# Altium schematic symbol library 710-DC2044B_REV01_PCA_SCHEMATIC_Library.SchLib: 74 symbols
Pins are listed as number, name and electrical type; pins without a type are passive.

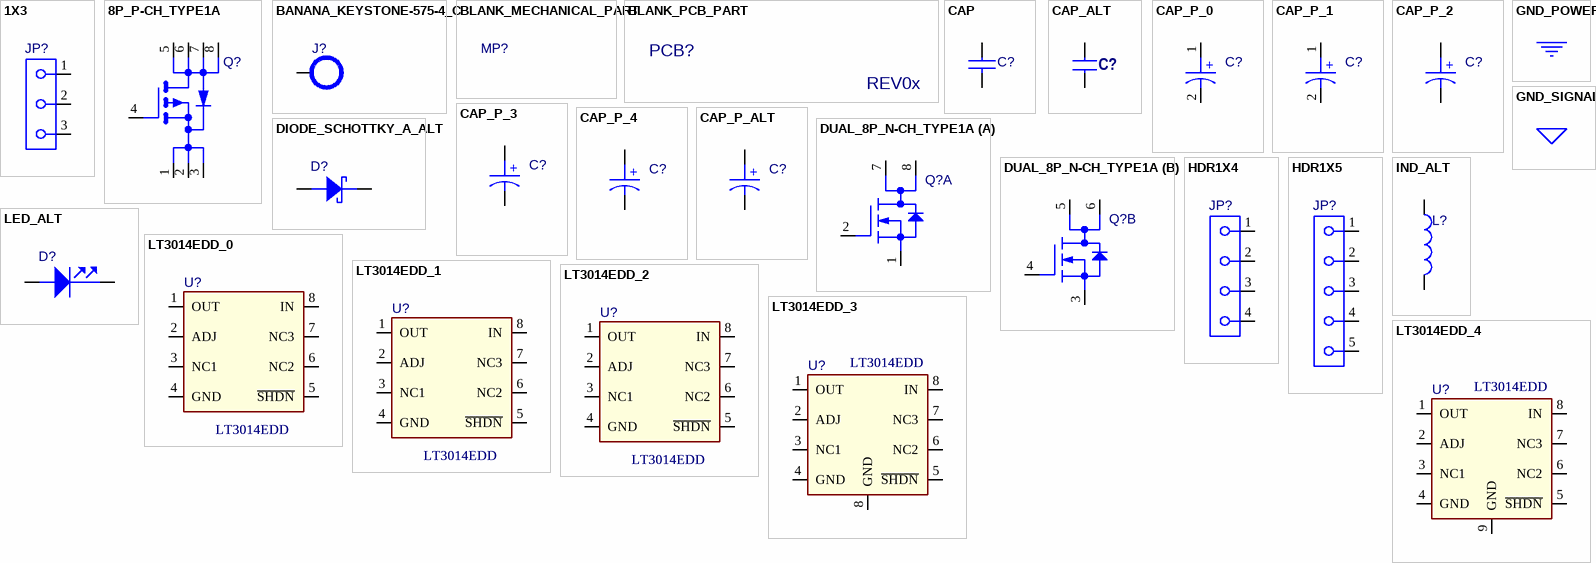
[diagram p0: symbols 1X3 to LT3014EDD_4]

## 1X3
designator JP?  (value not drawn)
pins: 1, 2, 3

## 8P_P-CH_TYPE1A
designator Q?
pins: 1 S_1, 2 S_2, 3 S_3, 4 G, 5 D_5, 6 D_6, 7 D_7, 8 D_8

## BANANA_KEYSTONE-575-4_C
designator J?
pins: 1

## BLANK_MECHANICAL_PART
designator MP?, comment TBD  (value not drawn)
PART DESCRIPTION HERE; Value: TBD

## BLANK_PCB_PART
designator PCB?, comment BOM Notes: REV0x  (hidden comment: TBD)
PCB,DCXXXX; Value: TBD

## CAP
designator C?
pins: 1, 2

## CAP_ALT
designator C?
EDMVersionID: 3900555435
pins: 1, 2

## CAP_P_0
designator C?
pins: 1, 2
text: +

## CAP_P_1
designator C?
pins: 1, 2
text: +

## CAP_P_2
designator C?
pins: 1, 2
text: +

## CAP_P_3
designator C?
pins: 1, 2
text: +

## CAP_P_4
designator C?
pins: 1, 2
text: +

## CAP_P_ALT
designator C?
pins: 1, 2
text: +

## DIODE_SCHOTTKY_A_ALT
designator D?
pins: 1 C, 2 A

## DUAL_8P_N-CH_TYPE1A
designator Q?
EDMVersionID: 1895815957
part A pins: 1 S1, 2 G1, 7 D1_7, 8 D1_8
part B pins: 3 S2, 4 G2, 5 D2_5, 6 D2_6

## GND_POWER
designator *  (value not drawn)  (graphical)
pins: GND (power) hidden to GND

## GND_SIGNAL
designator *  (value not drawn)  (graphical)
pins: GND (power) hidden to GND

## HDR1X4
designator JP?  (value not drawn)
pins: 1, 2, 3, 4

## HDR1X5
designator JP?  (value not drawn)
pins: 1, 2, 3, 4, 5

## IND_ALT
designator L?
pins: 1, 2

## LED_ALT
designator D?
pins: 1 CATHODE, 2 ANODE

## LT3014EDD_0
designator U?, comment LT3014EDD
EDMVersionID: 1471248459; Value: LT3014EDD
footprint LTC-S5-5-1635
pins: 1 OUT, 2 ADJ, 3 NC1, 4 GND, 5 ~{SHDN}, 6 NC2, 7 NC3, 8 IN

## LT3014EDD_1
designator U?, comment LT3014EDD
EDMVersionID: 1471248459; Value: LT3014EDD
footprint LTC-S5-5-1635
pins: 1 OUT, 2 ADJ, 3 NC1, 4 GND, 5 ~{S}~{HDN}, 6 NC2, 7 NC3, 8 IN

## LT3014EDD_2
designator U?, comment LT3014EDD
EDMVersionID: 1471248459; Value: LT3014EDD
footprint LTC-S5-5-1635
pins: 1 OUT, 2 ADJ, 3 NC1, 4 GND, 5 ~{SHDN}, 6 NC2, 7 NC3, 8 IN

## LT3014EDD_3
designator U?, comment LT3014EDD
EDMVersionID: 987387422; Value: LT3014EDD
footprint LTC-S5-5-1635
pins: 1 OUT, 2 ADJ, 3 NC1, 4 GND, 5 ~{SHDN}, 6 NC2, 7 NC3, 8 IN, 8 GND

## LT3014EDD_4
designator U?, comment LT3014EDD
EDMVersionID: 987387422; Value: LT3014EDD
footprint LTC-S5-5-1635
pins: 1 OUT, 2 ADJ, 3 NC1, 4 GND, 5 ~{SHDN}, 6 NC2, 7 NC3, 8 IN, 9 GND

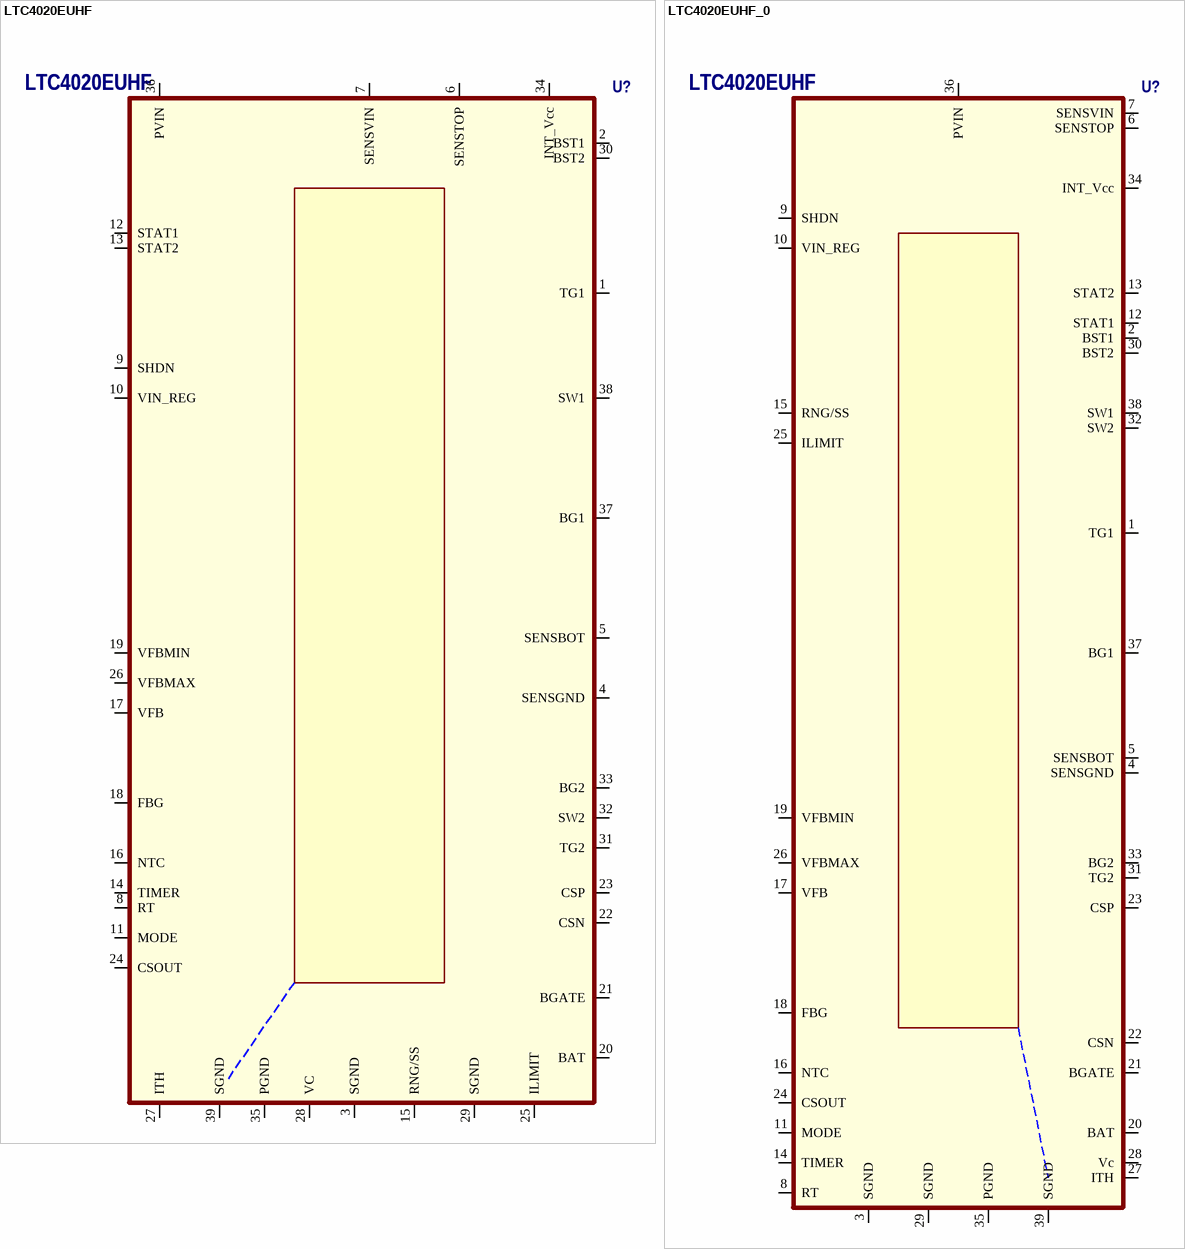
[diagram p1: symbols LTC4020EUHF to LTC4020EUHF_0]

## LTC4020EUHF
designator U?
EDMVersionID: 819358601; Value: LTC4020EUHF
footprint LTC-QFN-38-1701
pins: 1 TG1, 2 BST1, 3 SGND, 4 SENSGND, 5 SENSBOT, 6 SENSTOP, 7 SENSVIN, 8 RT, 9 SHDN, 10 VIN_REG, 11 MODE, 12 STAT1, 13 STAT2, 14 TIMER, 15 RNG/SS, 16 NTC, 17 VFB, 18 FBG, 19 VFBMIN, 20 BAT, 21 BGATE, 22 CSN, 23 CSP, 24 CSOUT, 25 ILIMIT, 26 VFBMAX, 27 ITH, 28 VC, 29 SGND, 30 BST2, 31 TG2, 32 SW2, 33 BG2, 34 INT_Vcc, 35 PGND, 36 PVIN, 37 BG1, 38 SW1, 39 SGND

## LTC4020EUHF_0
designator U?, comment LTC4020EUHF
EDMVersionID: 371176505; Value: LTC4020EUHF
footprint LTC-QFN-38-1701
pins: 1 TG1, 2 BST1, 3 SGND, 4 SENSGND, 5 SENSBOT, 6 SENSTOP, 7 SENSVIN, 8 RT, 9 SHDN, 10 VIN_REG, 11 MODE, 12 STAT1, 13 STAT2, 14 TIMER, 15 RNG/SS, 16 NTC, 17 VFB, 18 FBG, 19 VFBMIN, 20 BAT, 21 BGATE, 22 CSN, 23 CSP, 24 CSOUT, 25 ILIMIT, 26 VFBMAX, 27 ITH, 28 Vc, 29 SGND, 30 BST2, 31 TG2, 32 SW2, 33 BG2, 34 INT_Vcc, 35 PGND, 36 PVIN, 37 BG1, 38 SW1, 39 SGND

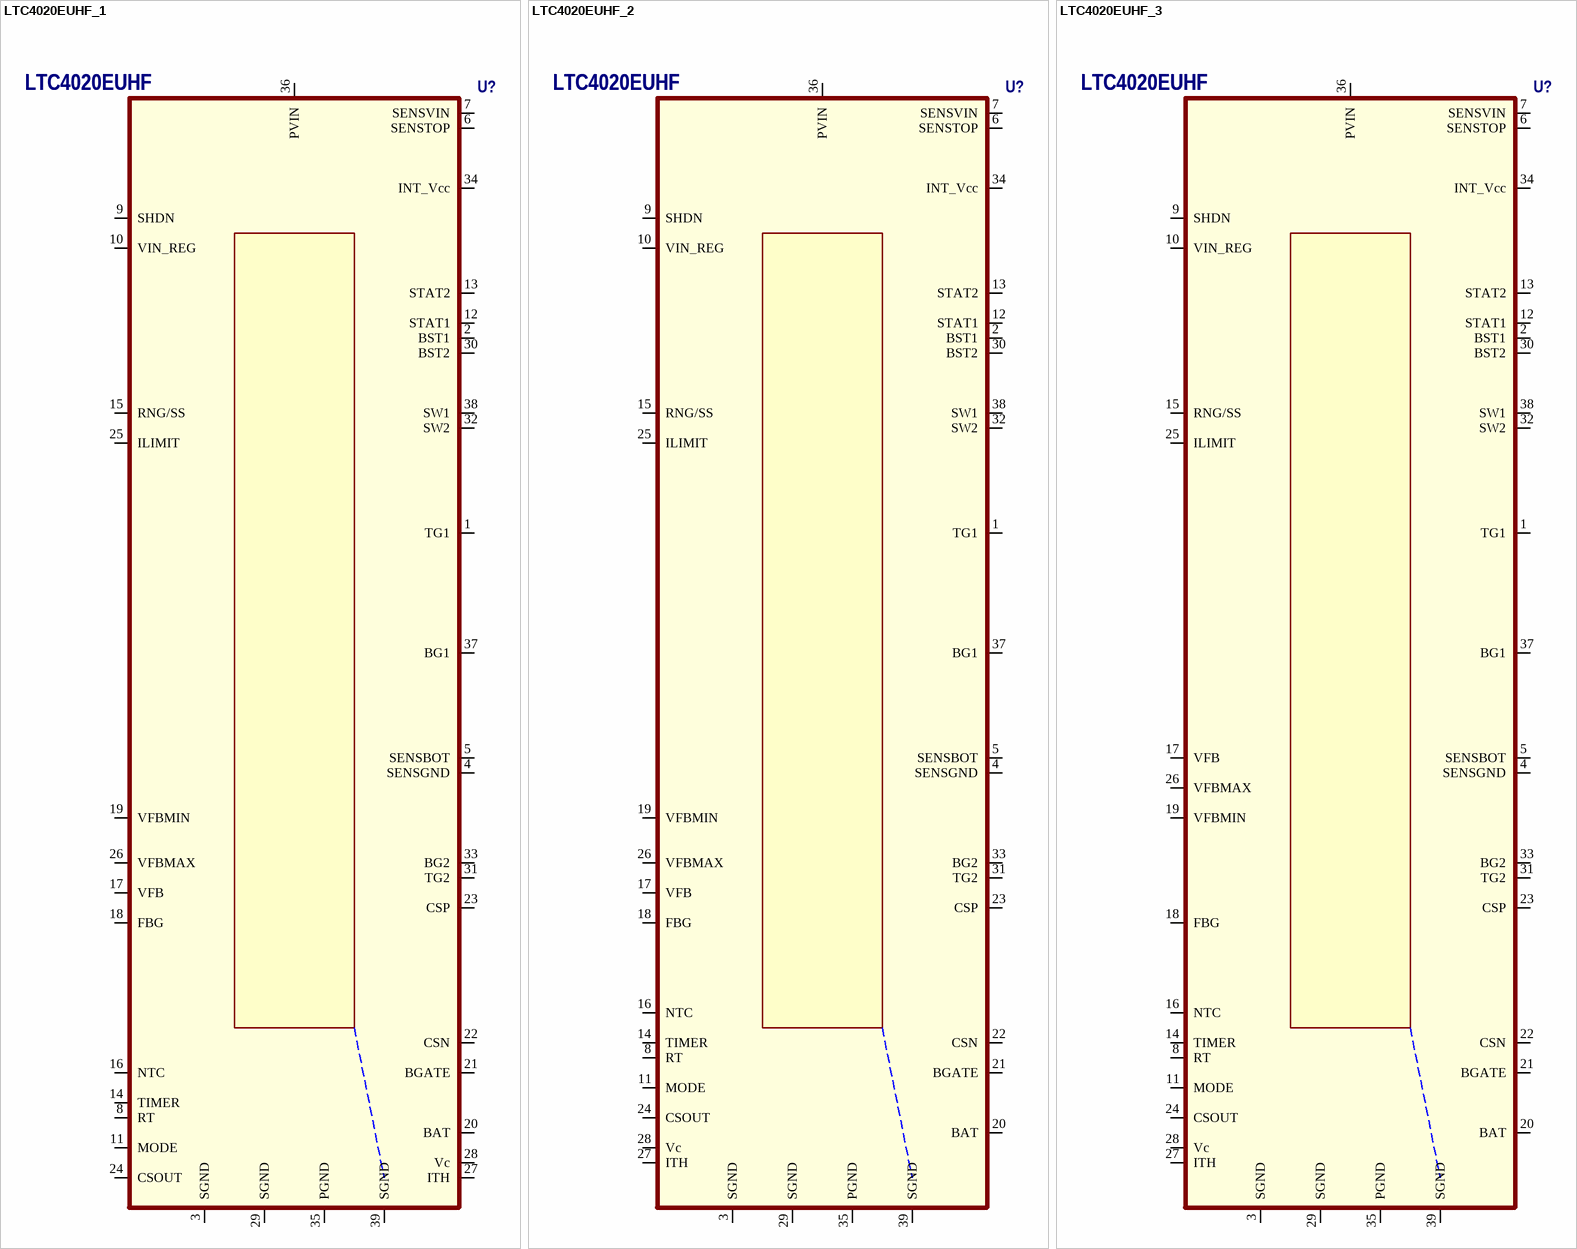
[diagram p2: symbols LTC4020EUHF_1 to LTC4020EUHF_3]

## LTC4020EUHF_1
designator U?, comment LTC4020EUHF
EDMVersionID: 371176505; Value: LTC4020EUHF
footprint LTC-QFN-38-1701
pins: 1 TG1, 2 BST1, 3 SGND, 4 SENSGND, 5 SENSBOT, 6 SENSTOP, 7 SENSVIN, 8 RT, 9 SHDN, 10 VIN_REG, 11 MODE, 12 STAT1, 13 STAT2, 14 TIMER, 15 RNG/SS, 16 NTC, 17 VFB, 18 FBG, 19 VFBMIN, 20 BAT, 21 BGATE, 22 CSN, 23 CSP, 24 CSOUT, 25 ILIMIT, 26 VFBMAX, 27 ITH, 28 Vc, 29 SGND, 30 BST2, 31 TG2, 32 SW2, 33 BG2, 34 INT_Vcc, 35 PGND, 36 PVIN, 37 BG1, 38 SW1, 39 SGND

## LTC4020EUHF_2
designator U?, comment LTC4020EUHF
EDMVersionID: 371176505; Value: LTC4020EUHF
footprint LTC-QFN-38-1701
pins: 1 TG1, 2 BST1, 3 SGND, 4 SENSGND, 5 SENSBOT, 6 SENSTOP, 7 SENSVIN, 8 RT, 9 SHDN, 10 VIN_REG, 11 MODE, 12 STAT1, 13 STAT2, 14 TIMER, 15 RNG/SS, 16 NTC, 17 VFB, 18 FBG, 19 VFBMIN, 20 BAT, 21 BGATE, 22 CSN, 23 CSP, 24 CSOUT, 25 ILIMIT, 26 VFBMAX, 27 ITH, 28 Vc, 29 SGND, 30 BST2, 31 TG2, 32 SW2, 33 BG2, 34 INT_Vcc, 35 PGND, 36 PVIN, 37 BG1, 38 SW1, 39 SGND

## LTC4020EUHF_3
designator U?, comment LTC4020EUHF
EDMVersionID: 371176505; Value: LTC4020EUHF
footprint LTC-QFN-38-1701
pins: 1 TG1, 2 BST1, 3 SGND, 4 SENSGND, 5 SENSBOT, 6 SENSTOP, 7 SENSVIN, 8 RT, 9 SHDN, 10 VIN_REG, 11 MODE, 12 STAT1, 13 STAT2, 14 TIMER, 15 RNG/SS, 16 NTC, 17 VFB, 18 FBG, 19 VFBMIN, 20 BAT, 21 BGATE, 22 CSN, 23 CSP, 24 CSOUT, 25 ILIMIT, 26 VFBMAX, 27 ITH, 28 Vc, 29 SGND, 30 BST2, 31 TG2, 32 SW2, 33 BG2, 34 INT_Vcc, 35 PGND, 36 PVIN, 37 BG1, 38 SW1, 39 SGND

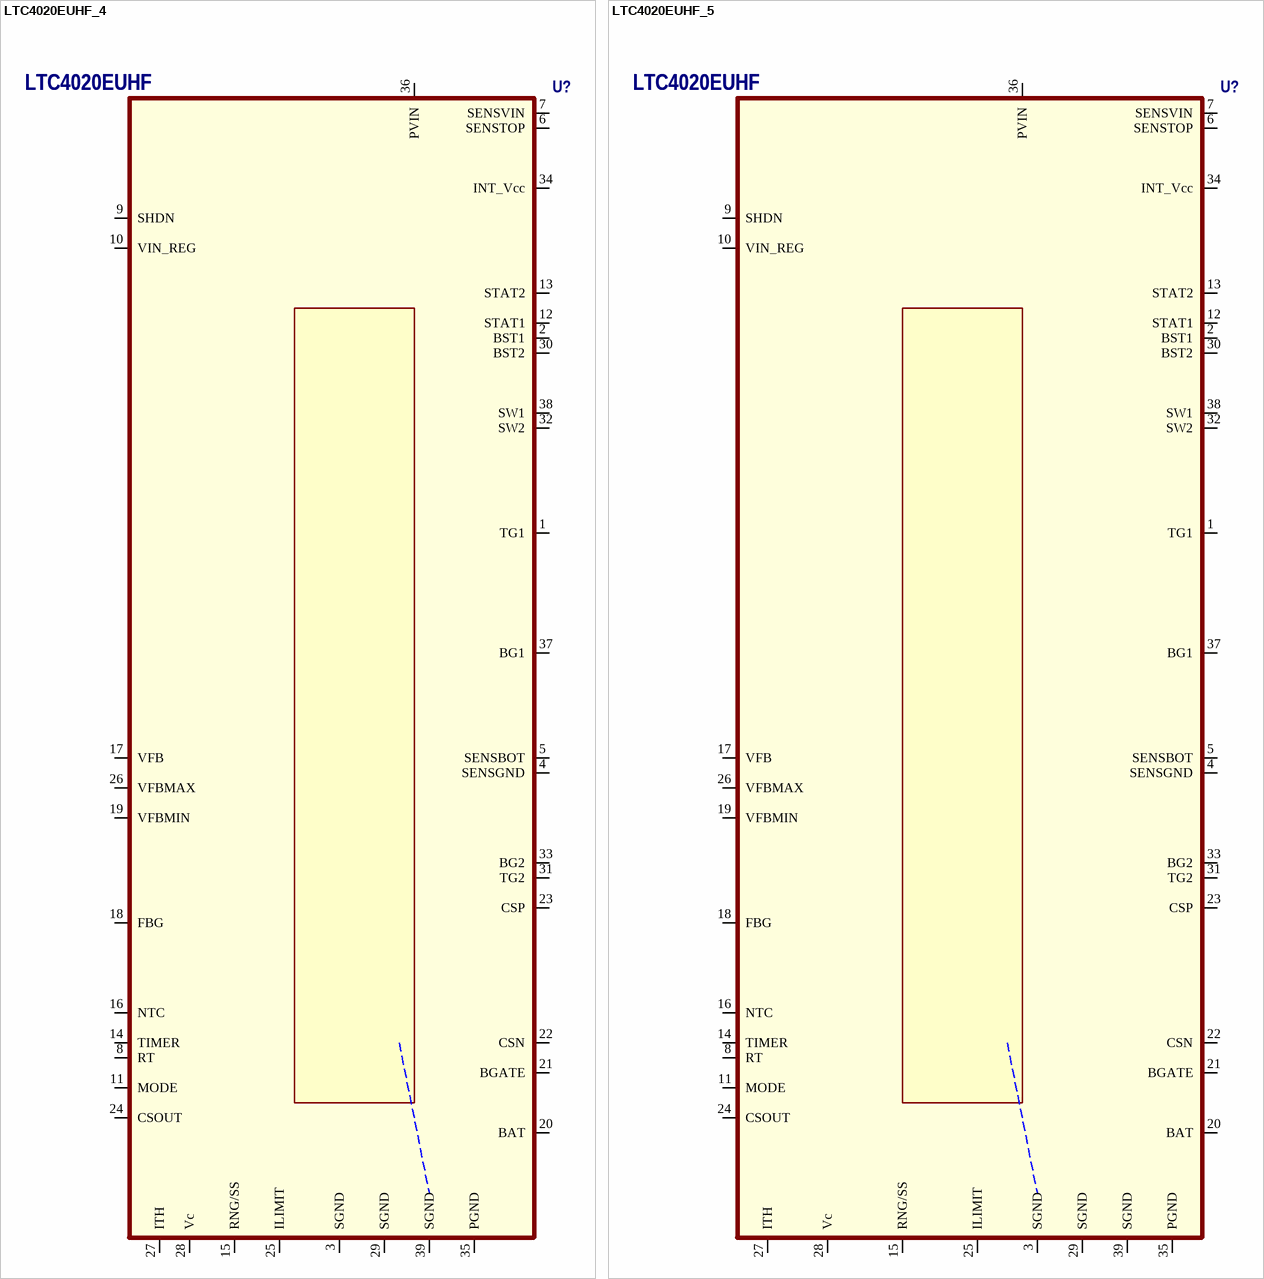
[diagram p3: symbols LTC4020EUHF_4 to LTC4020EUHF_5]

## LTC4020EUHF_4
designator U?, comment LTC4020EUHF
EDMVersionID: 371176505; Value: LTC4020EUHF
footprint LTC-QFN-38-1701
pins: 1 TG1, 2 BST1, 3 SGND, 4 SENSGND, 5 SENSBOT, 6 SENSTOP, 7 SENSVIN, 8 RT, 9 SHDN, 10 VIN_REG, 11 MODE, 12 STAT1, 13 STAT2, 14 TIMER, 15 RNG/SS, 16 NTC, 17 VFB, 18 FBG, 19 VFBMIN, 20 BAT, 21 BGATE, 22 CSN, 23 CSP, 24 CSOUT, 25 ILIMIT, 26 VFBMAX, 27 ITH, 28 Vc, 29 SGND, 30 BST2, 31 TG2, 32 SW2, 33 BG2, 34 INT_Vcc, 35 PGND, 36 PVIN, 37 BG1, 38 SW1, 39 SGND

## LTC4020EUHF_5
designator U?, comment LTC4020EUHF
EDMVersionID: 371176505; Value: LTC4020EUHF
footprint LTC-QFN-38-1701
pins: 1 TG1, 2 BST1, 3 SGND, 4 SENSGND, 5 SENSBOT, 6 SENSTOP, 7 SENSVIN, 8 RT, 9 SHDN, 10 VIN_REG, 11 MODE, 12 STAT1, 13 STAT2, 14 TIMER, 15 RNG/SS, 16 NTC, 17 VFB, 18 FBG, 19 VFBMIN, 20 BAT, 21 BGATE, 22 CSN, 23 CSP, 24 CSOUT, 25 ILIMIT, 26 VFBMAX, 27 ITH, 28 Vc, 29 SGND, 30 BST2, 31 TG2, 32 SW2, 33 BG2, 34 INT_Vcc, 35 PGND, 36 PVIN, 37 BG1, 38 SW1, 39 SGND

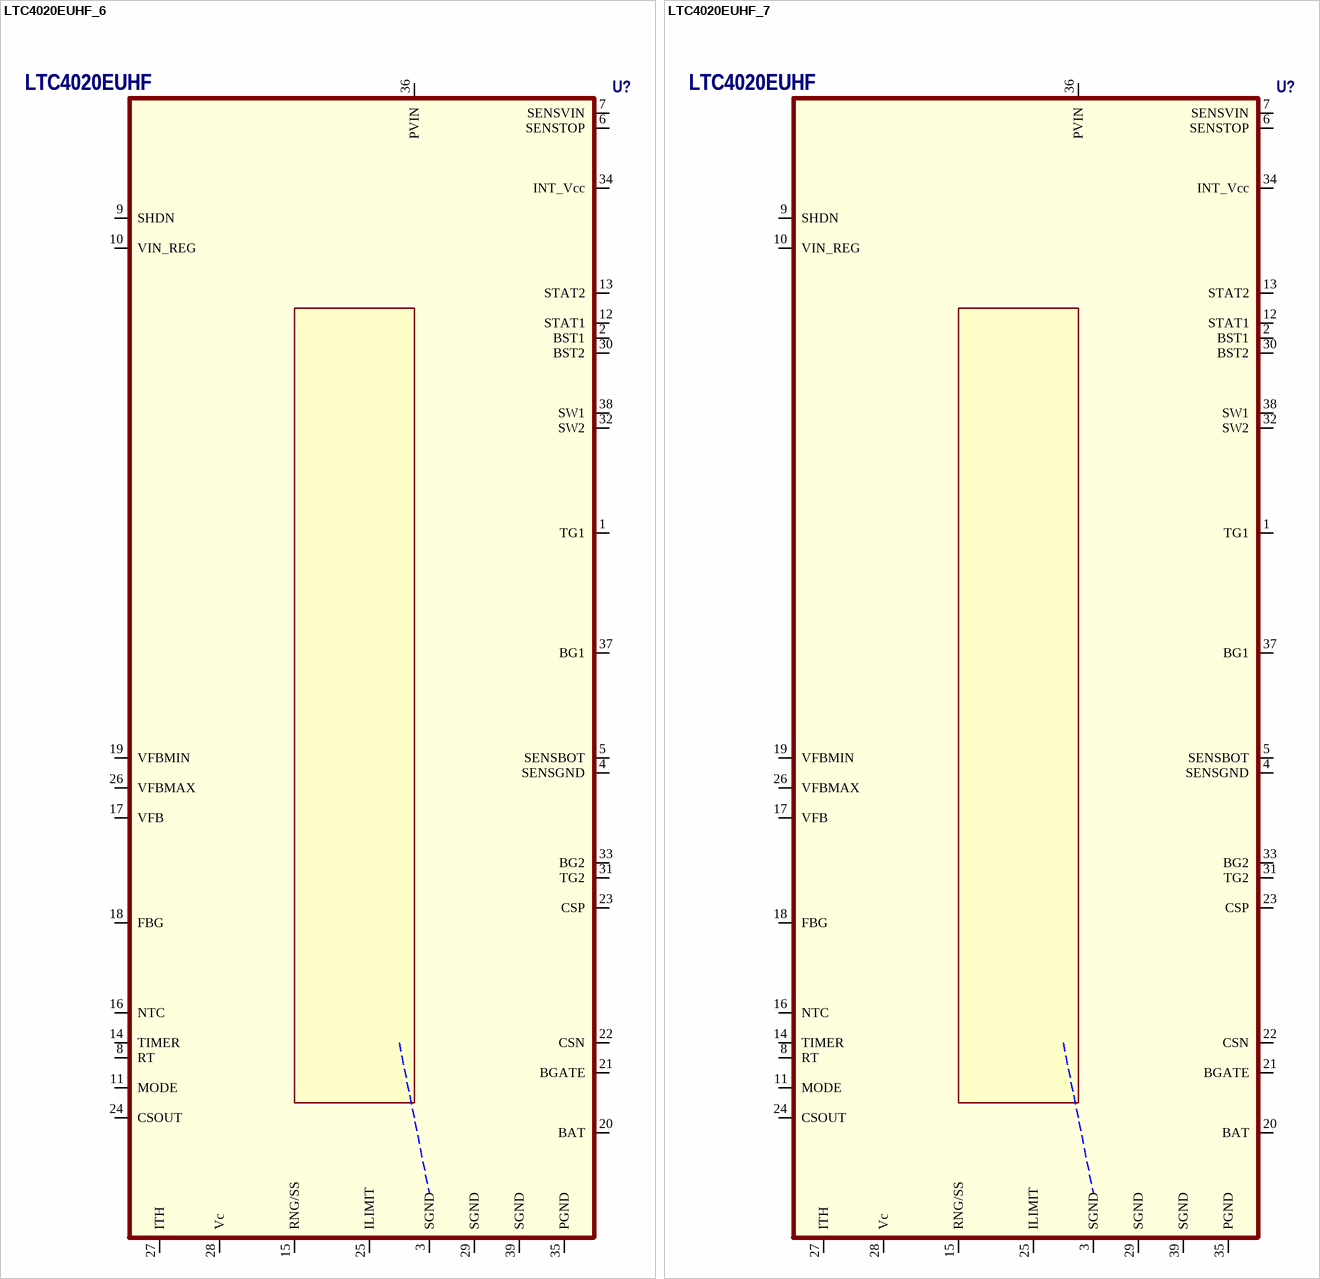
[diagram p4: symbols LTC4020EUHF_6 to LTC4020EUHF_7]

## LTC4020EUHF_6
designator U?, comment LTC4020EUHF
EDMVersionID: 371176505; Value: LTC4020EUHF
footprint LTC-QFN-38-1701
pins: 1 TG1, 2 BST1, 3 SGND, 4 SENSGND, 5 SENSBOT, 6 SENSTOP, 7 SENSVIN, 8 RT, 9 SHDN, 10 VIN_REG, 11 MODE, 12 STAT1, 13 STAT2, 14 TIMER, 15 RNG/SS, 16 NTC, 17 VFB, 18 FBG, 19 VFBMIN, 20 BAT, 21 BGATE, 22 CSN, 23 CSP, 24 CSOUT, 25 ILIMIT, 26 VFBMAX, 27 ITH, 28 Vc, 29 SGND, 30 BST2, 31 TG2, 32 SW2, 33 BG2, 34 INT_Vcc, 35 PGND, 36 PVIN, 37 BG1, 38 SW1, 39 SGND

## LTC4020EUHF_7
designator U?, comment LTC4020EUHF
EDMVersionID: 371176505; Value: LTC4020EUHF
footprint LTC-QFN-38-1701
pins: 1 TG1, 2 BST1, 3 SGND, 4 SENSGND, 5 SENSBOT, 6 SENSTOP, 7 SENSVIN, 8 RT, 9 SHDN, 10 VIN_REG, 11 MODE, 12 STAT1, 13 STAT2, 14 TIMER, 15 RNG/SS, 16 NTC, 17 VFB, 18 FBG, 19 VFBMIN, 20 BAT, 21 BGATE, 22 CSN, 23 CSP, 24 CSOUT, 25 ILIMIT, 26 VFBMAX, 27 ITH, 28 Vc, 29 SGND, 30 BST2, 31 TG2, 32 SW2, 33 BG2, 34 INT_Vcc, 35 PGND, 36 PVIN, 37 BG1, 38 SW1, 39 SGND

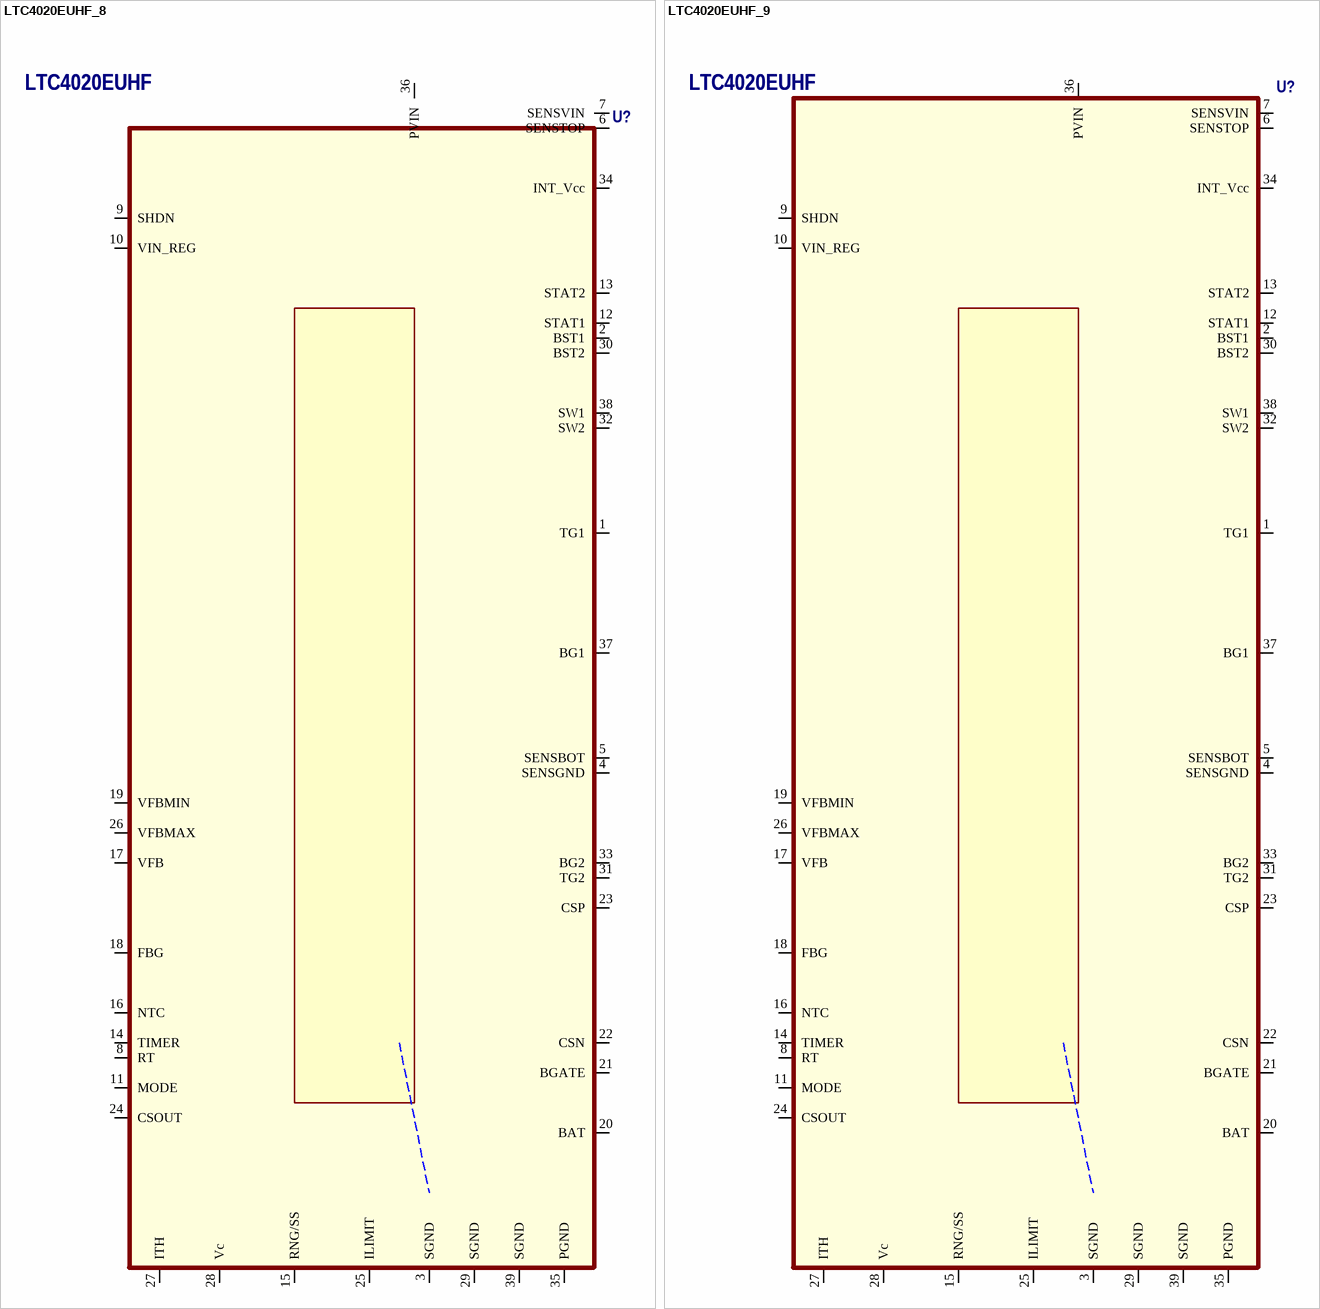
[diagram p5: symbols LTC4020EUHF_8 to LTC4020EUHF_9]

## LTC4020EUHF_8
designator U?, comment LTC4020EUHF
EDMVersionID: 371176505; Value: LTC4020EUHF
footprint LTC-QFN-38-1701
pins: 1 TG1, 2 BST1, 3 SGND, 4 SENSGND, 5 SENSBOT, 6 SENSTOP, 7 SENSVIN, 8 RT, 9 SHDN, 10 VIN_REG, 11 MODE, 12 STAT1, 13 STAT2, 14 TIMER, 15 RNG/SS, 16 NTC, 17 VFB, 18 FBG, 19 VFBMIN, 20 BAT, 21 BGATE, 22 CSN, 23 CSP, 24 CSOUT, 25 ILIMIT, 26 VFBMAX, 27 ITH, 28 Vc, 29 SGND, 30 BST2, 31 TG2, 32 SW2, 33 BG2, 34 INT_Vcc, 35 PGND, 36 PVIN, 37 BG1, 38 SW1, 39 SGND

## LTC4020EUHF_9
designator U?, comment LTC4020EUHF
EDMVersionID: 371176505; Value: LTC4020EUHF
footprint LTC-QFN-38-1701
pins: 1 TG1, 2 BST1, 3 SGND, 4 SENSGND, 5 SENSBOT, 6 SENSTOP, 7 SENSVIN, 8 RT, 9 SHDN, 10 VIN_REG, 11 MODE, 12 STAT1, 13 STAT2, 14 TIMER, 15 RNG/SS, 16 NTC, 17 VFB, 18 FBG, 19 VFBMIN, 20 BAT, 21 BGATE, 22 CSN, 23 CSP, 24 CSOUT, 25 ILIMIT, 26 VFBMAX, 27 ITH, 28 Vc, 29 SGND, 30 BST2, 31 TG2, 32 SW2, 33 BG2, 34 INT_Vcc, 35 PGND, 36 PVIN, 37 BG1, 38 SW1, 39 SGND

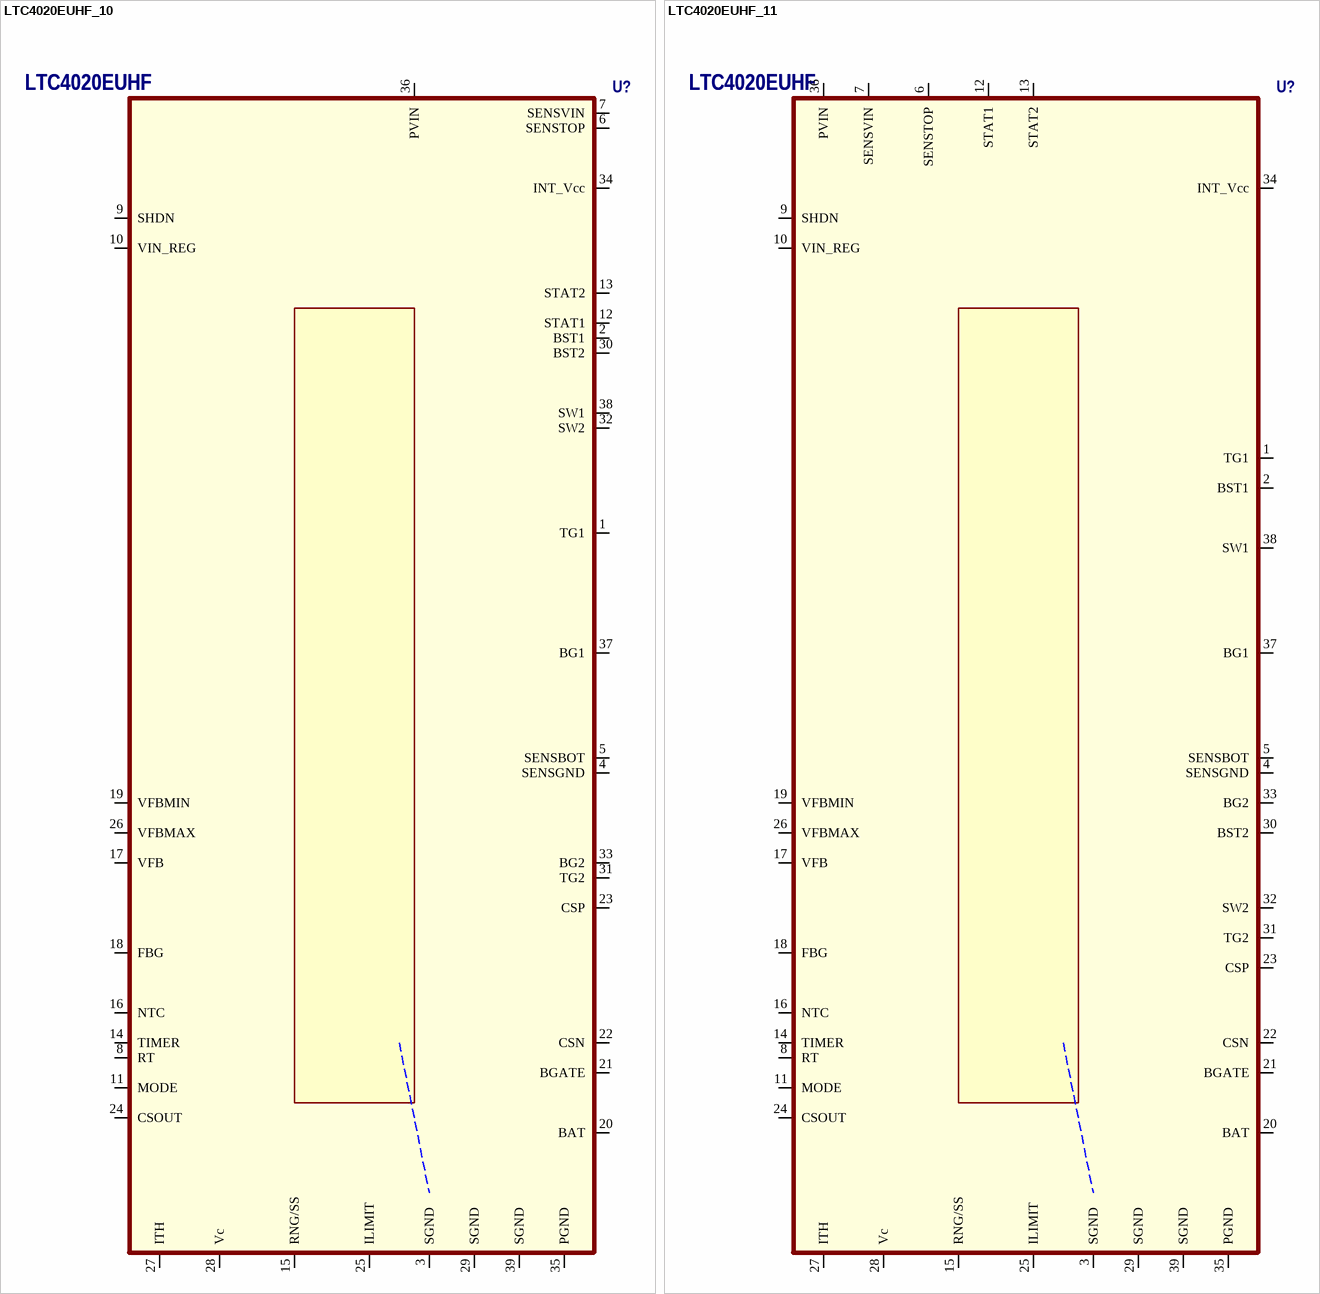
[diagram p6: symbols LTC4020EUHF_10 to LTC4020EUHF_11]

## LTC4020EUHF_10
designator U?, comment LTC4020EUHF
EDMVersionID: 371176505; Value: LTC4020EUHF
footprint LTC-QFN-38-1701
pins: 1 TG1, 2 BST1, 3 SGND, 4 SENSGND, 5 SENSBOT, 6 SENSTOP, 7 SENSVIN, 8 RT, 9 SHDN, 10 VIN_REG, 11 MODE, 12 STAT1, 13 STAT2, 14 TIMER, 15 RNG/SS, 16 NTC, 17 VFB, 18 FBG, 19 VFBMIN, 20 BAT, 21 BGATE, 22 CSN, 23 CSP, 24 CSOUT, 25 ILIMIT, 26 VFBMAX, 27 ITH, 28 Vc, 29 SGND, 30 BST2, 31 TG2, 32 SW2, 33 BG2, 34 INT_Vcc, 35 PGND, 36 PVIN, 37 BG1, 38 SW1, 39 SGND

## LTC4020EUHF_11
designator U?, comment LTC4020EUHF
EDMVersionID: 371176505; Value: LTC4020EUHF
footprint LTC-QFN-38-1701
pins: 1 TG1, 2 BST1, 3 SGND, 4 SENSGND, 5 SENSBOT, 6 SENSTOP, 7 SENSVIN, 8 RT, 9 SHDN, 10 VIN_REG, 11 MODE, 12 STAT1, 13 STAT2, 14 TIMER, 15 RNG/SS, 16 NTC, 17 VFB, 18 FBG, 19 VFBMIN, 20 BAT, 21 BGATE, 22 CSN, 23 CSP, 24 CSOUT, 25 ILIMIT, 26 VFBMAX, 27 ITH, 28 Vc, 29 SGND, 30 BST2, 31 TG2, 32 SW2, 33 BG2, 34 INT_Vcc, 35 PGND, 36 PVIN, 37 BG1, 38 SW1, 39 SGND

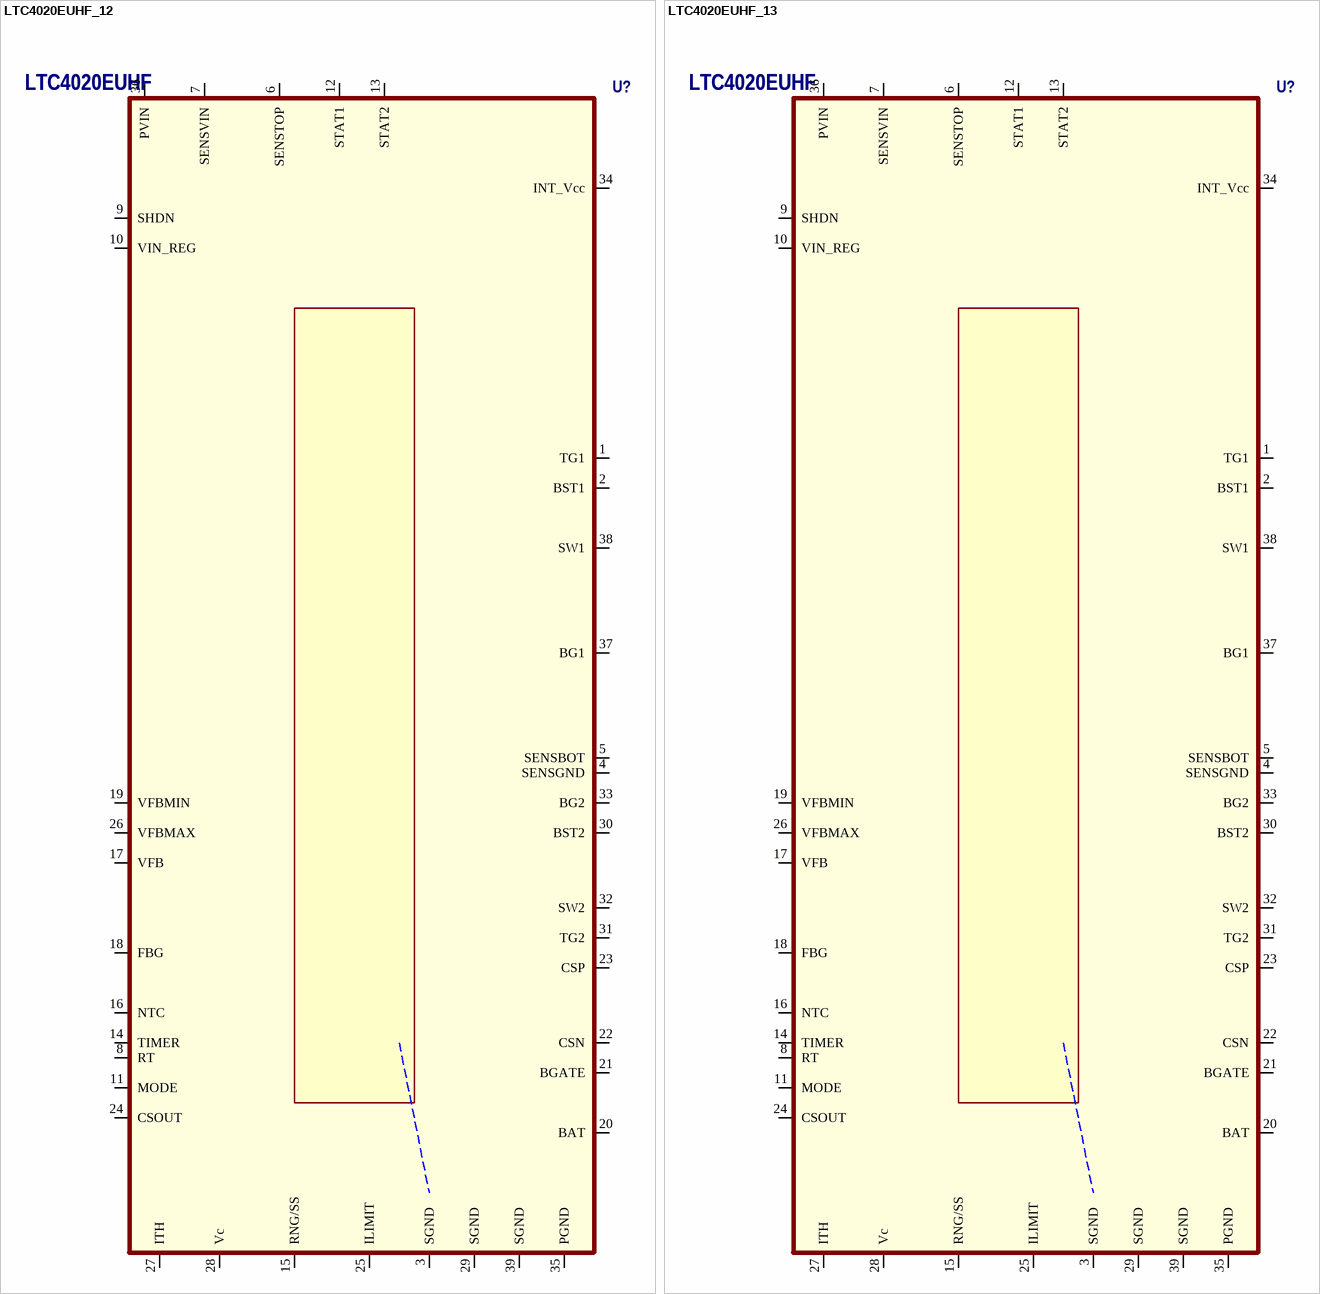
[diagram p7: symbols LTC4020EUHF_12 to LTC4020EUHF_13]

## LTC4020EUHF_12
designator U?, comment LTC4020EUHF
EDMVersionID: 371176505; Value: LTC4020EUHF
footprint LTC-QFN-38-1701
pins: 1 TG1, 2 BST1, 3 SGND, 4 SENSGND, 5 SENSBOT, 6 SENSTOP, 7 SENSVIN, 8 RT, 9 SHDN, 10 VIN_REG, 11 MODE, 12 STAT1, 13 STAT2, 14 TIMER, 15 RNG/SS, 16 NTC, 17 VFB, 18 FBG, 19 VFBMIN, 20 BAT, 21 BGATE, 22 CSN, 23 CSP, 24 CSOUT, 25 ILIMIT, 26 VFBMAX, 27 ITH, 28 Vc, 29 SGND, 30 BST2, 31 TG2, 32 SW2, 33 BG2, 34 INT_Vcc, 35 PGND, 36 PVIN, 37 BG1, 38 SW1, 39 SGND

## LTC4020EUHF_13
designator U?, comment LTC4020EUHF
EDMVersionID: 371176505; Value: LTC4020EUHF
footprint LTC-QFN-38-1701
pins: 1 TG1, 2 BST1, 3 SGND, 4 SENSGND, 5 SENSBOT, 6 SENSTOP, 7 SENSVIN, 8 RT, 9 SHDN, 10 VIN_REG, 11 MODE, 12 STAT1, 13 STAT2, 14 TIMER, 15 RNG/SS, 16 NTC, 17 VFB, 18 FBG, 19 VFBMIN, 20 BAT, 21 BGATE, 22 CSN, 23 CSP, 24 CSOUT, 25 ILIMIT, 26 VFBMAX, 27 ITH, 28 Vc, 29 SGND, 30 BST2, 31 TG2, 32 SW2, 33 BG2, 34 INT_Vcc, 35 PGND, 36 PVIN, 37 BG1, 38 SW1, 39 SGND

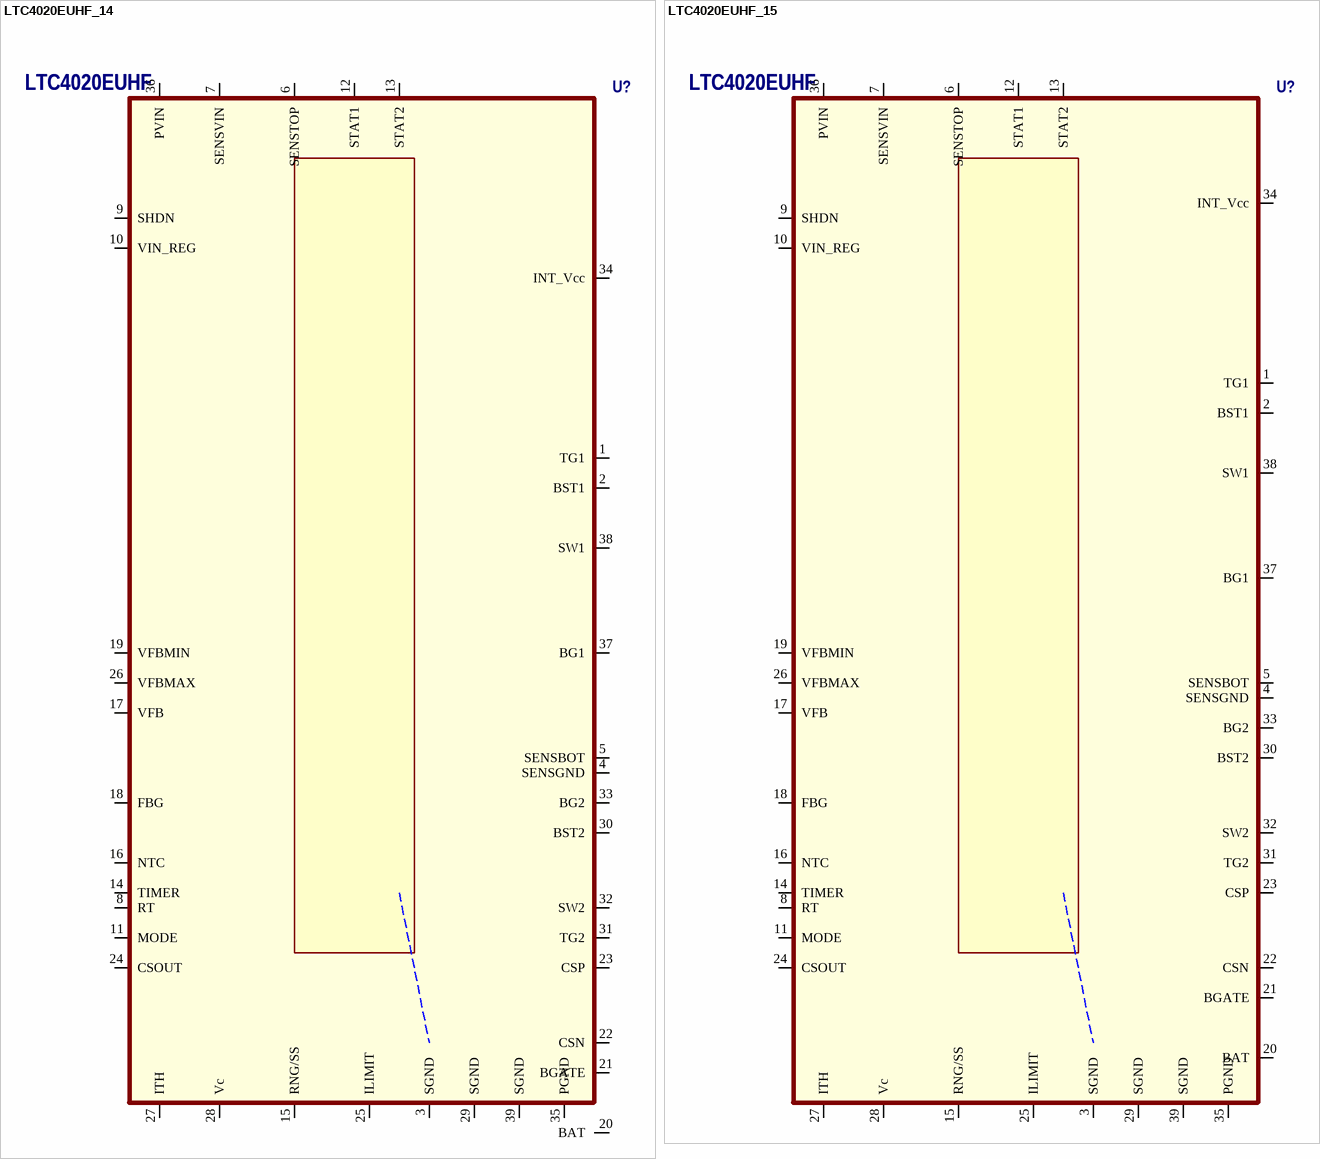
[diagram p8: symbols LTC4020EUHF_14 to LTC4020EUHF_15]

## LTC4020EUHF_14
designator U?, comment LTC4020EUHF
EDMVersionID: 371176505; Value: LTC4020EUHF
footprint LTC-QFN-38-1701
pins: 1 TG1, 2 BST1, 3 SGND, 4 SENSGND, 5 SENSBOT, 6 SENSTOP, 7 SENSVIN, 8 RT, 9 SHDN, 10 VIN_REG, 11 MODE, 12 STAT1, 13 STAT2, 14 TIMER, 15 RNG/SS, 16 NTC, 17 VFB, 18 FBG, 19 VFBMIN, 20 BAT, 21 BGATE, 22 CSN, 23 CSP, 24 CSOUT, 25 ILIMIT, 26 VFBMAX, 27 ITH, 28 Vc, 29 SGND, 30 BST2, 31 TG2, 32 SW2, 33 BG2, 34 INT_Vcc, 35 PGND, 36 PVIN, 37 BG1, 38 SW1, 39 SGND

## LTC4020EUHF_15
designator U?, comment LTC4020EUHF
EDMVersionID: 371176505; Value: LTC4020EUHF
footprint LTC-QFN-38-1701
pins: 1 TG1, 2 BST1, 3 SGND, 4 SENSGND, 5 SENSBOT, 6 SENSTOP, 7 SENSVIN, 8 RT, 9 SHDN, 10 VIN_REG, 11 MODE, 12 STAT1, 13 STAT2, 14 TIMER, 15 RNG/SS, 16 NTC, 17 VFB, 18 FBG, 19 VFBMIN, 20 BAT, 21 BGATE, 22 CSN, 23 CSP, 24 CSOUT, 25 ILIMIT, 26 VFBMAX, 27 ITH, 28 Vc, 29 SGND, 30 BST2, 31 TG2, 32 SW2, 33 BG2, 34 INT_Vcc, 35 PGND, 36 PVIN, 37 BG1, 38 SW1, 39 SGND

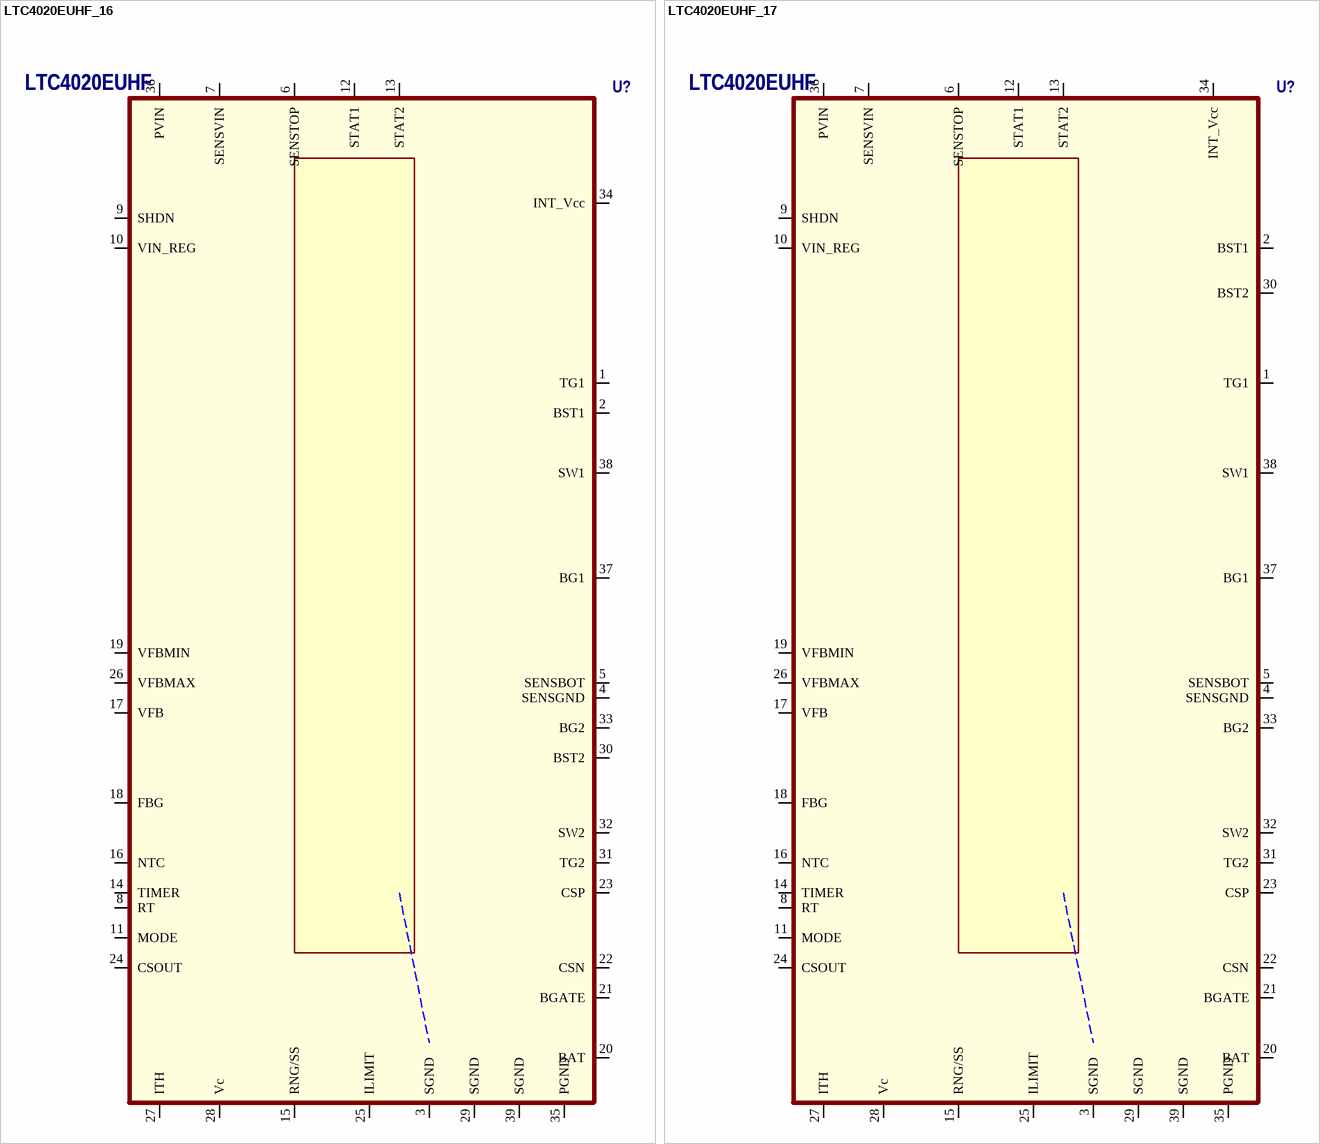
[diagram p9: symbols LTC4020EUHF_16 to LTC4020EUHF_17]

## LTC4020EUHF_16
designator U?, comment LTC4020EUHF
EDMVersionID: 371176505; Value: LTC4020EUHF
footprint LTC-QFN-38-1701
pins: 1 TG1, 2 BST1, 3 SGND, 4 SENSGND, 5 SENSBOT, 6 SENSTOP, 7 SENSVIN, 8 RT, 9 SHDN, 10 VIN_REG, 11 MODE, 12 STAT1, 13 STAT2, 14 TIMER, 15 RNG/SS, 16 NTC, 17 VFB, 18 FBG, 19 VFBMIN, 20 BAT, 21 BGATE, 22 CSN, 23 CSP, 24 CSOUT, 25 ILIMIT, 26 VFBMAX, 27 ITH, 28 Vc, 29 SGND, 30 BST2, 31 TG2, 32 SW2, 33 BG2, 34 INT_Vcc, 35 PGND, 36 PVIN, 37 BG1, 38 SW1, 39 SGND

## LTC4020EUHF_17
designator U?, comment LTC4020EUHF
EDMVersionID: 371176505; Value: LTC4020EUHF
footprint LTC-QFN-38-1701
pins: 1 TG1, 2 BST1, 3 SGND, 4 SENSGND, 5 SENSBOT, 6 SENSTOP, 7 SENSVIN, 8 RT, 9 SHDN, 10 VIN_REG, 11 MODE, 12 STAT1, 13 STAT2, 14 TIMER, 15 RNG/SS, 16 NTC, 17 VFB, 18 FBG, 19 VFBMIN, 20 BAT, 21 BGATE, 22 CSN, 23 CSP, 24 CSOUT, 25 ILIMIT, 26 VFBMAX, 27 ITH, 28 Vc, 29 SGND, 30 BST2, 31 TG2, 32 SW2, 33 BG2, 34 INT_Vcc, 35 PGND, 36 PVIN, 37 BG1, 38 SW1, 39 SGND

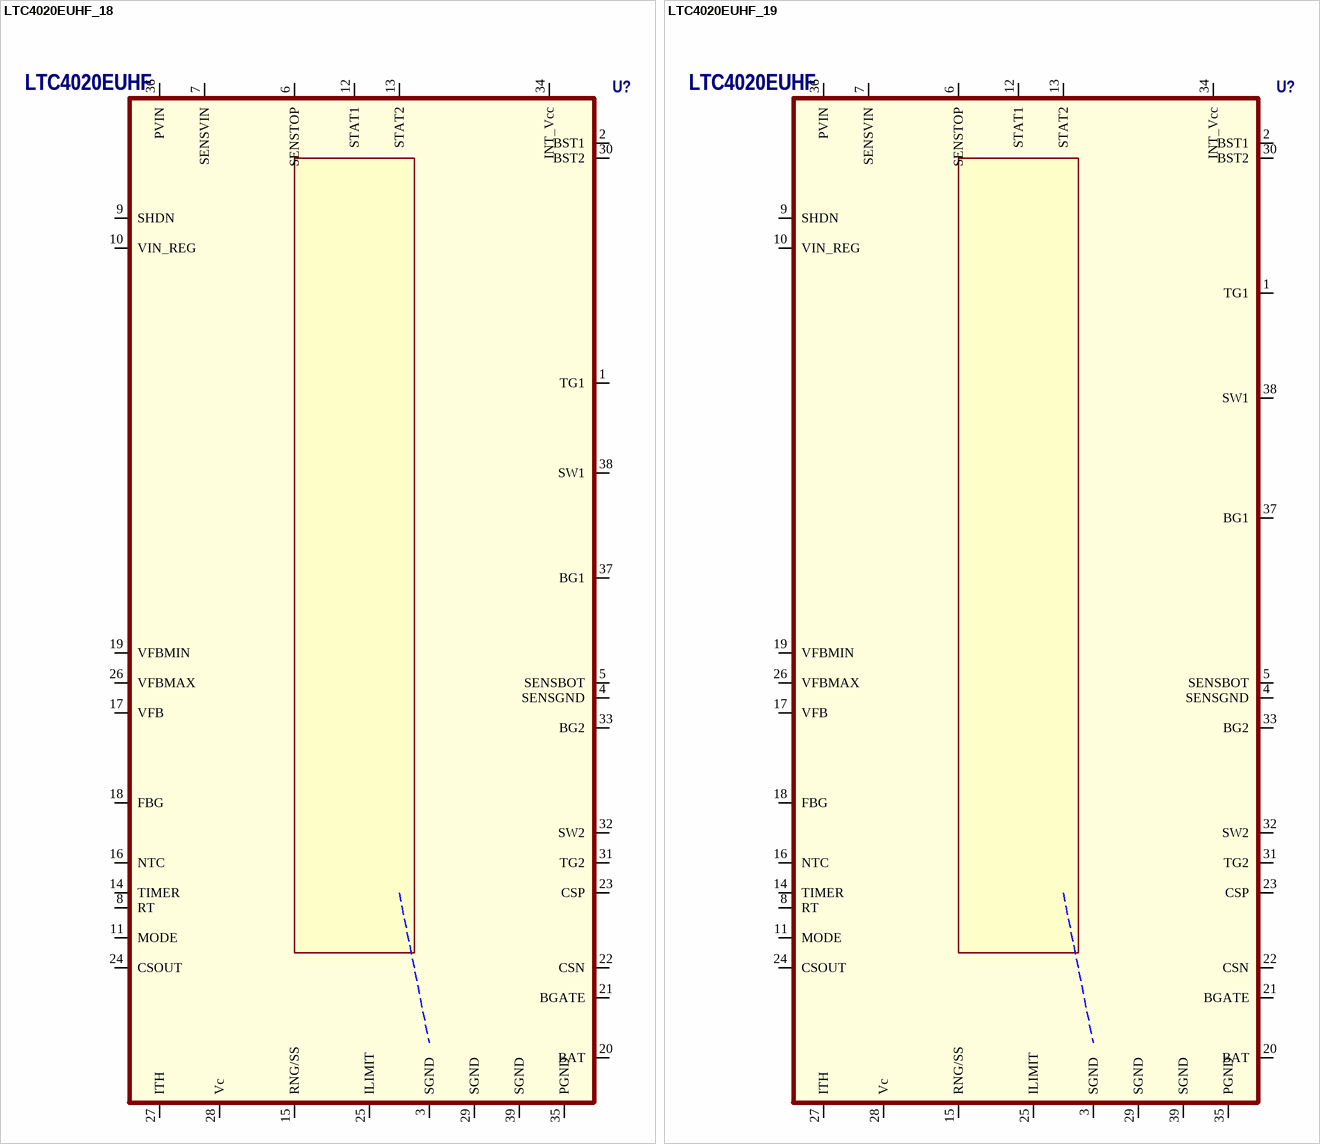
[diagram p10: symbols LTC4020EUHF_18 to LTC4020EUHF_19]

## LTC4020EUHF_18
designator U?, comment LTC4020EUHF
EDMVersionID: 371176505; Value: LTC4020EUHF
footprint LTC-QFN-38-1701
pins: 1 TG1, 2 BST1, 3 SGND, 4 SENSGND, 5 SENSBOT, 6 SENSTOP, 7 SENSVIN, 8 RT, 9 SHDN, 10 VIN_REG, 11 MODE, 12 STAT1, 13 STAT2, 14 TIMER, 15 RNG/SS, 16 NTC, 17 VFB, 18 FBG, 19 VFBMIN, 20 BAT, 21 BGATE, 22 CSN, 23 CSP, 24 CSOUT, 25 ILIMIT, 26 VFBMAX, 27 ITH, 28 Vc, 29 SGND, 30 BST2, 31 TG2, 32 SW2, 33 BG2, 34 INT_Vcc, 35 PGND, 36 PVIN, 37 BG1, 38 SW1, 39 SGND

## LTC4020EUHF_19
designator U?, comment LTC4020EUHF
EDMVersionID: 371176505; Value: LTC4020EUHF
footprint LTC-QFN-38-1701
pins: 1 TG1, 2 BST1, 3 SGND, 4 SENSGND, 5 SENSBOT, 6 SENSTOP, 7 SENSVIN, 8 RT, 9 SHDN, 10 VIN_REG, 11 MODE, 12 STAT1, 13 STAT2, 14 TIMER, 15 RNG/SS, 16 NTC, 17 VFB, 18 FBG, 19 VFBMIN, 20 BAT, 21 BGATE, 22 CSN, 23 CSP, 24 CSOUT, 25 ILIMIT, 26 VFBMAX, 27 ITH, 28 Vc, 29 SGND, 30 BST2, 31 TG2, 32 SW2, 33 BG2, 34 INT_Vcc, 35 PGND, 36 PVIN, 37 BG1, 38 SW1, 39 SGND

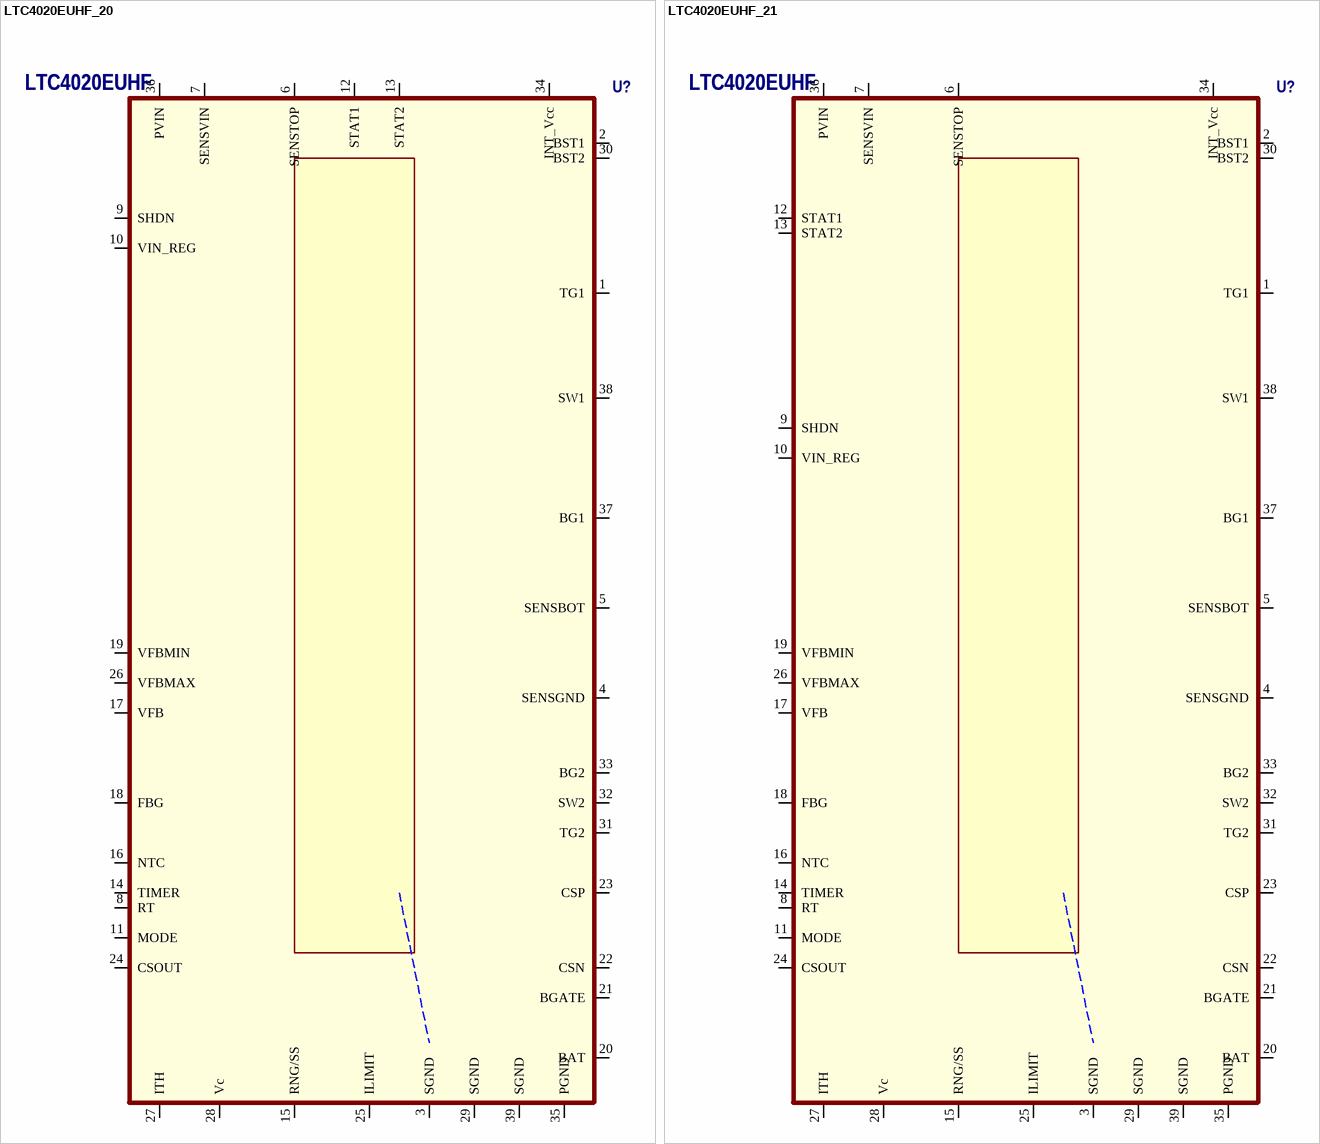
[diagram p11: symbols LTC4020EUHF_20 to LTC4020EUHF_21]

## LTC4020EUHF_20
designator U?, comment LTC4020EUHF
EDMVersionID: 371176505; Value: LTC4020EUHF
footprint LTC-QFN-38-1701
pins: 1 TG1, 2 BST1, 3 SGND, 4 SENSGND, 5 SENSBOT, 6 SENSTOP, 7 SENSVIN, 8 RT, 9 SHDN, 10 VIN_REG, 11 MODE, 12 STAT1, 13 STAT2, 14 TIMER, 15 RNG/SS, 16 NTC, 17 VFB, 18 FBG, 19 VFBMIN, 20 BAT, 21 BGATE, 22 CSN, 23 CSP, 24 CSOUT, 25 ILIMIT, 26 VFBMAX, 27 ITH, 28 Vc, 29 SGND, 30 BST2, 31 TG2, 32 SW2, 33 BG2, 34 INT_Vcc, 35 PGND, 36 PVIN, 37 BG1, 38 SW1, 39 SGND

## LTC4020EUHF_21
designator U?, comment LTC4020EUHF
EDMVersionID: 371176505; Value: LTC4020EUHF
footprint LTC-QFN-38-1701
pins: 1 TG1, 2 BST1, 3 SGND, 4 SENSGND, 5 SENSBOT, 6 SENSTOP, 7 SENSVIN, 8 RT, 9 SHDN, 10 VIN_REG, 11 MODE, 12 STAT1, 13 STAT2, 14 TIMER, 15 RNG/SS, 16 NTC, 17 VFB, 18 FBG, 19 VFBMIN, 20 BAT, 21 BGATE, 22 CSN, 23 CSP, 24 CSOUT, 25 ILIMIT, 26 VFBMAX, 27 ITH, 28 Vc, 29 SGND, 30 BST2, 31 TG2, 32 SW2, 33 BG2, 34 INT_Vcc, 35 PGND, 36 PVIN, 37 BG1, 38 SW1, 39 SGND

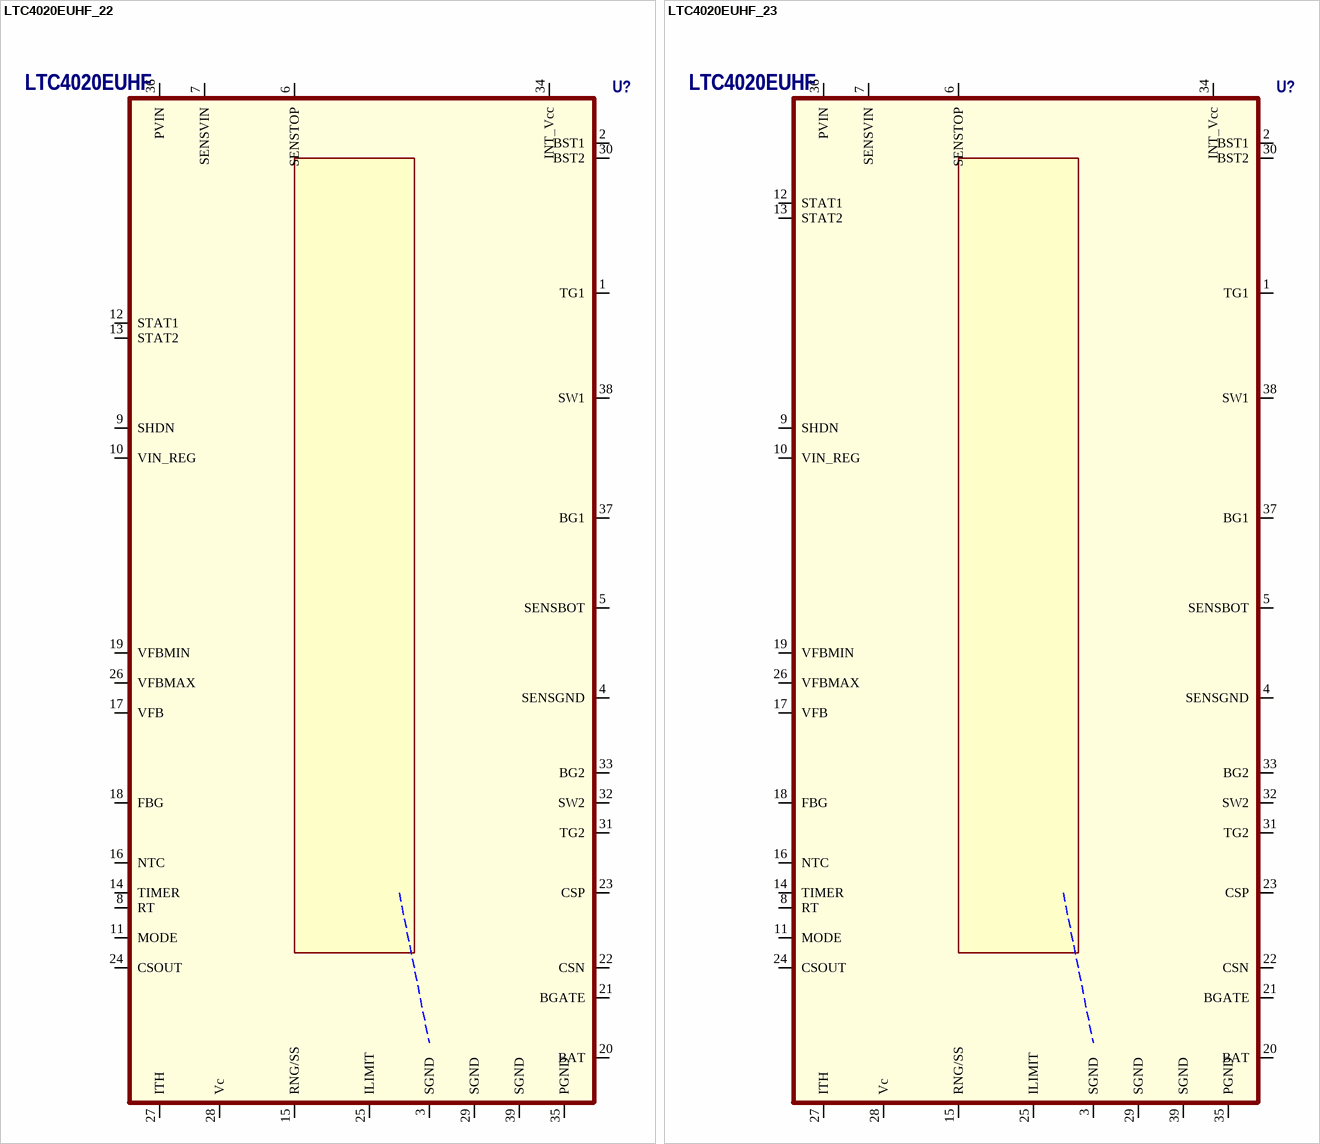
[diagram p12: symbols LTC4020EUHF_22 to LTC4020EUHF_23]

## LTC4020EUHF_22
designator U?, comment LTC4020EUHF
EDMVersionID: 371176505; Value: LTC4020EUHF
footprint LTC-QFN-38-1701
pins: 1 TG1, 2 BST1, 3 SGND, 4 SENSGND, 5 SENSBOT, 6 SENSTOP, 7 SENSVIN, 8 RT, 9 SHDN, 10 VIN_REG, 11 MODE, 12 STAT1, 13 STAT2, 14 TIMER, 15 RNG/SS, 16 NTC, 17 VFB, 18 FBG, 19 VFBMIN, 20 BAT, 21 BGATE, 22 CSN, 23 CSP, 24 CSOUT, 25 ILIMIT, 26 VFBMAX, 27 ITH, 28 Vc, 29 SGND, 30 BST2, 31 TG2, 32 SW2, 33 BG2, 34 INT_Vcc, 35 PGND, 36 PVIN, 37 BG1, 38 SW1, 39 SGND

## LTC4020EUHF_23
designator U?, comment LTC4020EUHF
EDMVersionID: 371176505; Value: LTC4020EUHF
footprint LTC-QFN-38-1701
pins: 1 TG1, 2 BST1, 3 SGND, 4 SENSGND, 5 SENSBOT, 6 SENSTOP, 7 SENSVIN, 8 RT, 9 SHDN, 10 VIN_REG, 11 MODE, 12 STAT1, 13 STAT2, 14 TIMER, 15 RNG/SS, 16 NTC, 17 VFB, 18 FBG, 19 VFBMIN, 20 BAT, 21 BGATE, 22 CSN, 23 CSP, 24 CSOUT, 25 ILIMIT, 26 VFBMAX, 27 ITH, 28 Vc, 29 SGND, 30 BST2, 31 TG2, 32 SW2, 33 BG2, 34 INT_Vcc, 35 PGND, 36 PVIN, 37 BG1, 38 SW1, 39 SGND

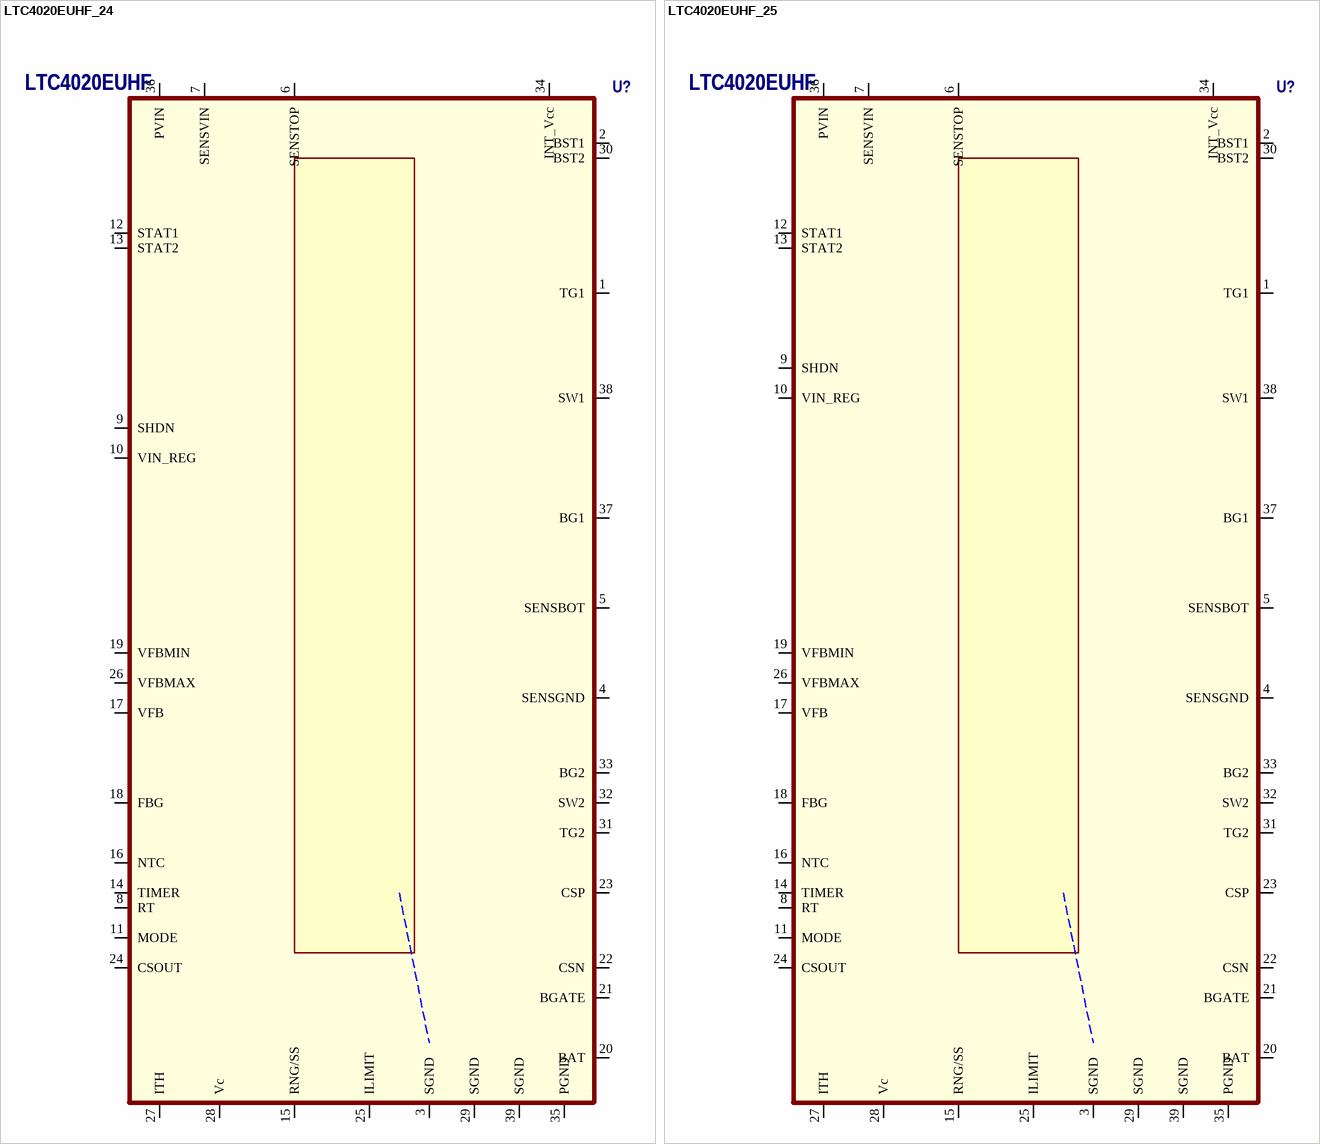
[diagram p13: symbols LTC4020EUHF_24 to LTC4020EUHF_25]

## LTC4020EUHF_24
designator U?, comment LTC4020EUHF
EDMVersionID: 371176505; Value: LTC4020EUHF
footprint LTC-QFN-38-1701
pins: 1 TG1, 2 BST1, 3 SGND, 4 SENSGND, 5 SENSBOT, 6 SENSTOP, 7 SENSVIN, 8 RT, 9 SHDN, 10 VIN_REG, 11 MODE, 12 STAT1, 13 STAT2, 14 TIMER, 15 RNG/SS, 16 NTC, 17 VFB, 18 FBG, 19 VFBMIN, 20 BAT, 21 BGATE, 22 CSN, 23 CSP, 24 CSOUT, 25 ILIMIT, 26 VFBMAX, 27 ITH, 28 Vc, 29 SGND, 30 BST2, 31 TG2, 32 SW2, 33 BG2, 34 INT_Vcc, 35 PGND, 36 PVIN, 37 BG1, 38 SW1, 39 SGND

## LTC4020EUHF_25
designator U?, comment LTC4020EUHF
EDMVersionID: 371176505; Value: LTC4020EUHF
footprint LTC-QFN-38-1701
pins: 1 TG1, 2 BST1, 3 SGND, 4 SENSGND, 5 SENSBOT, 6 SENSTOP, 7 SENSVIN, 8 RT, 9 SHDN, 10 VIN_REG, 11 MODE, 12 STAT1, 13 STAT2, 14 TIMER, 15 RNG/SS, 16 NTC, 17 VFB, 18 FBG, 19 VFBMIN, 20 BAT, 21 BGATE, 22 CSN, 23 CSP, 24 CSOUT, 25 ILIMIT, 26 VFBMAX, 27 ITH, 28 Vc, 29 SGND, 30 BST2, 31 TG2, 32 SW2, 33 BG2, 34 INT_Vcc, 35 PGND, 36 PVIN, 37 BG1, 38 SW1, 39 SGND

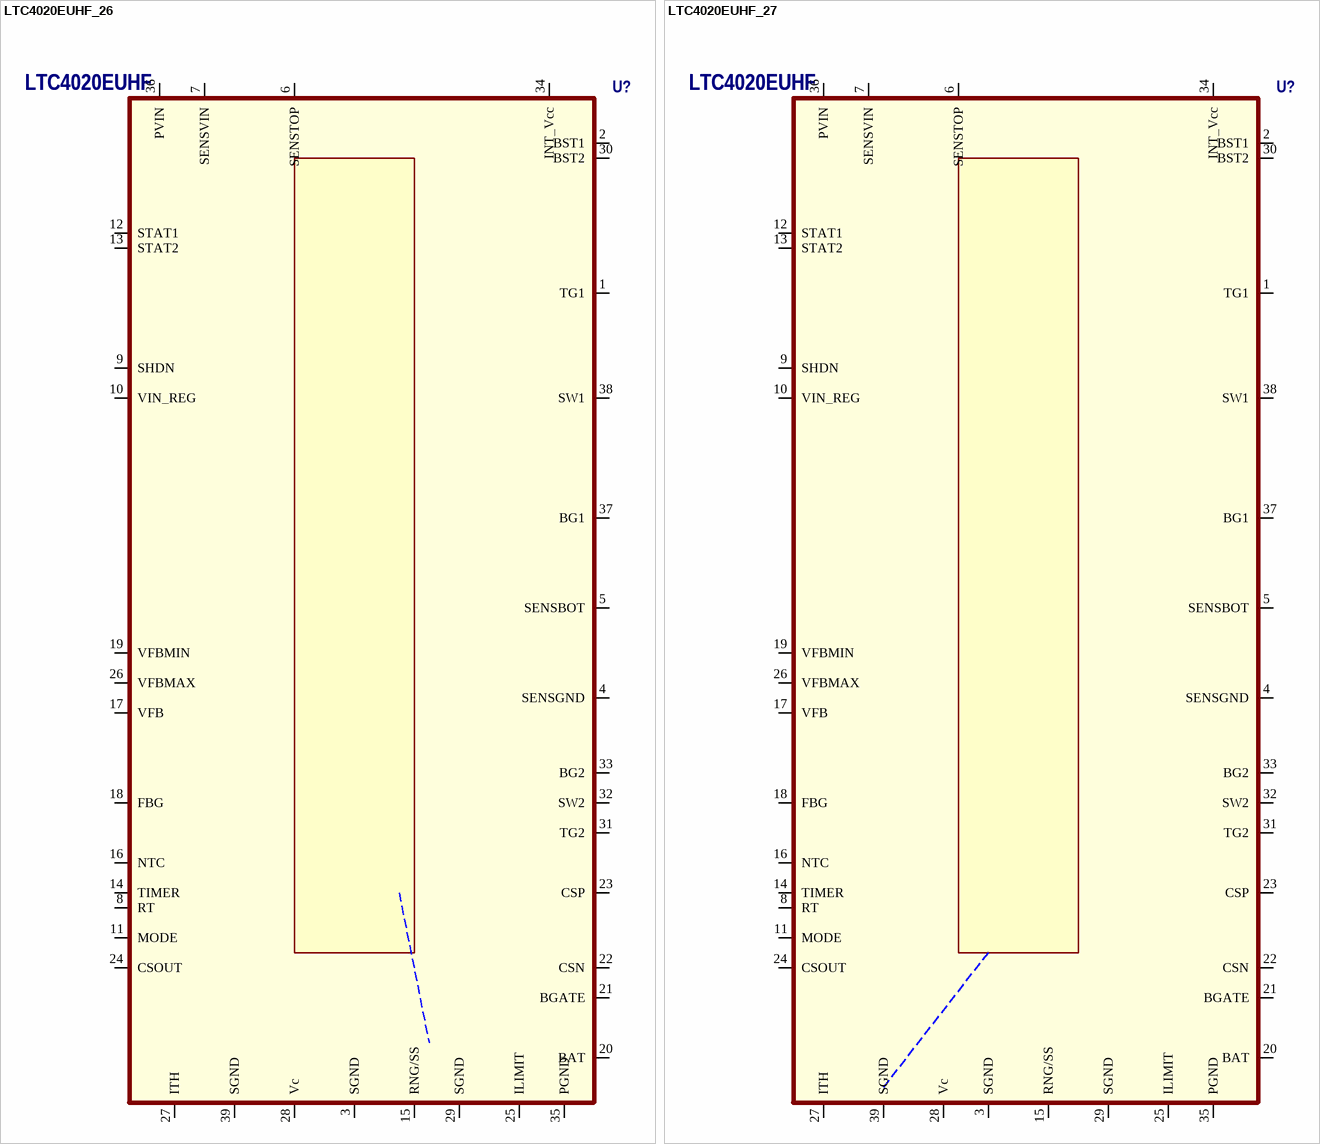
[diagram p14: symbols LTC4020EUHF_26 to LTC4020EUHF_27]

## LTC4020EUHF_26
designator U?, comment LTC4020EUHF
EDMVersionID: 371176505; Value: LTC4020EUHF
footprint LTC-QFN-38-1701
pins: 1 TG1, 2 BST1, 3 SGND, 4 SENSGND, 5 SENSBOT, 6 SENSTOP, 7 SENSVIN, 8 RT, 9 SHDN, 10 VIN_REG, 11 MODE, 12 STAT1, 13 STAT2, 14 TIMER, 15 RNG/SS, 16 NTC, 17 VFB, 18 FBG, 19 VFBMIN, 20 BAT, 21 BGATE, 22 CSN, 23 CSP, 24 CSOUT, 25 ILIMIT, 26 VFBMAX, 27 ITH, 28 Vc, 29 SGND, 30 BST2, 31 TG2, 32 SW2, 33 BG2, 34 INT_Vcc, 35 PGND, 36 PVIN, 37 BG1, 38 SW1, 39 SGND

## LTC4020EUHF_27
designator U?, comment LTC4020EUHF
EDMVersionID: 371176505; Value: LTC4020EUHF
footprint LTC-QFN-38-1701
pins: 1 TG1, 2 BST1, 3 SGND, 4 SENSGND, 5 SENSBOT, 6 SENSTOP, 7 SENSVIN, 8 RT, 9 SHDN, 10 VIN_REG, 11 MODE, 12 STAT1, 13 STAT2, 14 TIMER, 15 RNG/SS, 16 NTC, 17 VFB, 18 FBG, 19 VFBMIN, 20 BAT, 21 BGATE, 22 CSN, 23 CSP, 24 CSOUT, 25 ILIMIT, 26 VFBMAX, 27 ITH, 28 Vc, 29 SGND, 30 BST2, 31 TG2, 32 SW2, 33 BG2, 34 INT_Vcc, 35 PGND, 36 PVIN, 37 BG1, 38 SW1, 39 SGND

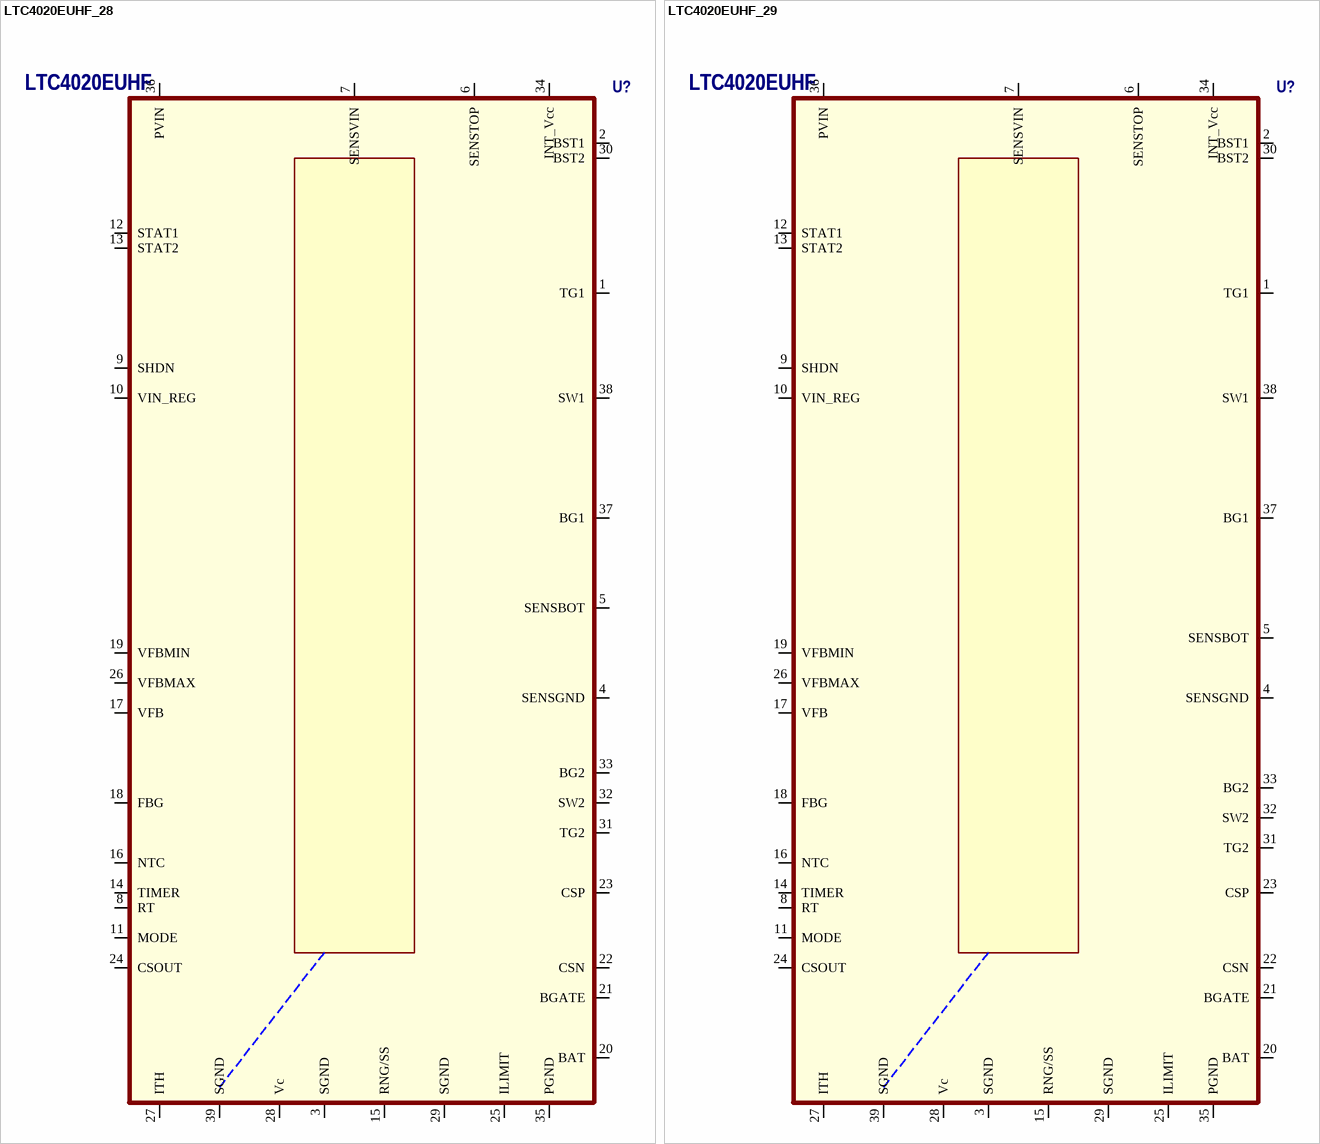
[diagram p15: symbols LTC4020EUHF_28 to LTC4020EUHF_29]

## LTC4020EUHF_28
designator U?, comment LTC4020EUHF
EDMVersionID: 371176505; Value: LTC4020EUHF
footprint LTC-QFN-38-1701
pins: 1 TG1, 2 BST1, 3 SGND, 4 SENSGND, 5 SENSBOT, 6 SENSTOP, 7 SENSVIN, 8 RT, 9 SHDN, 10 VIN_REG, 11 MODE, 12 STAT1, 13 STAT2, 14 TIMER, 15 RNG/SS, 16 NTC, 17 VFB, 18 FBG, 19 VFBMIN, 20 BAT, 21 BGATE, 22 CSN, 23 CSP, 24 CSOUT, 25 ILIMIT, 26 VFBMAX, 27 ITH, 28 Vc, 29 SGND, 30 BST2, 31 TG2, 32 SW2, 33 BG2, 34 INT_Vcc, 35 PGND, 36 PVIN, 37 BG1, 38 SW1, 39 SGND

## LTC4020EUHF_29
designator U?, comment LTC4020EUHF
EDMVersionID: 371176505; Value: LTC4020EUHF
footprint LTC-QFN-38-1701
pins: 1 TG1, 2 BST1, 3 SGND, 4 SENSGND, 5 SENSBOT, 6 SENSTOP, 7 SENSVIN, 8 RT, 9 SHDN, 10 VIN_REG, 11 MODE, 12 STAT1, 13 STAT2, 14 TIMER, 15 RNG/SS, 16 NTC, 17 VFB, 18 FBG, 19 VFBMIN, 20 BAT, 21 BGATE, 22 CSN, 23 CSP, 24 CSOUT, 25 ILIMIT, 26 VFBMAX, 27 ITH, 28 Vc, 29 SGND, 30 BST2, 31 TG2, 32 SW2, 33 BG2, 34 INT_Vcc, 35 PGND, 36 PVIN, 37 BG1, 38 SW1, 39 SGND

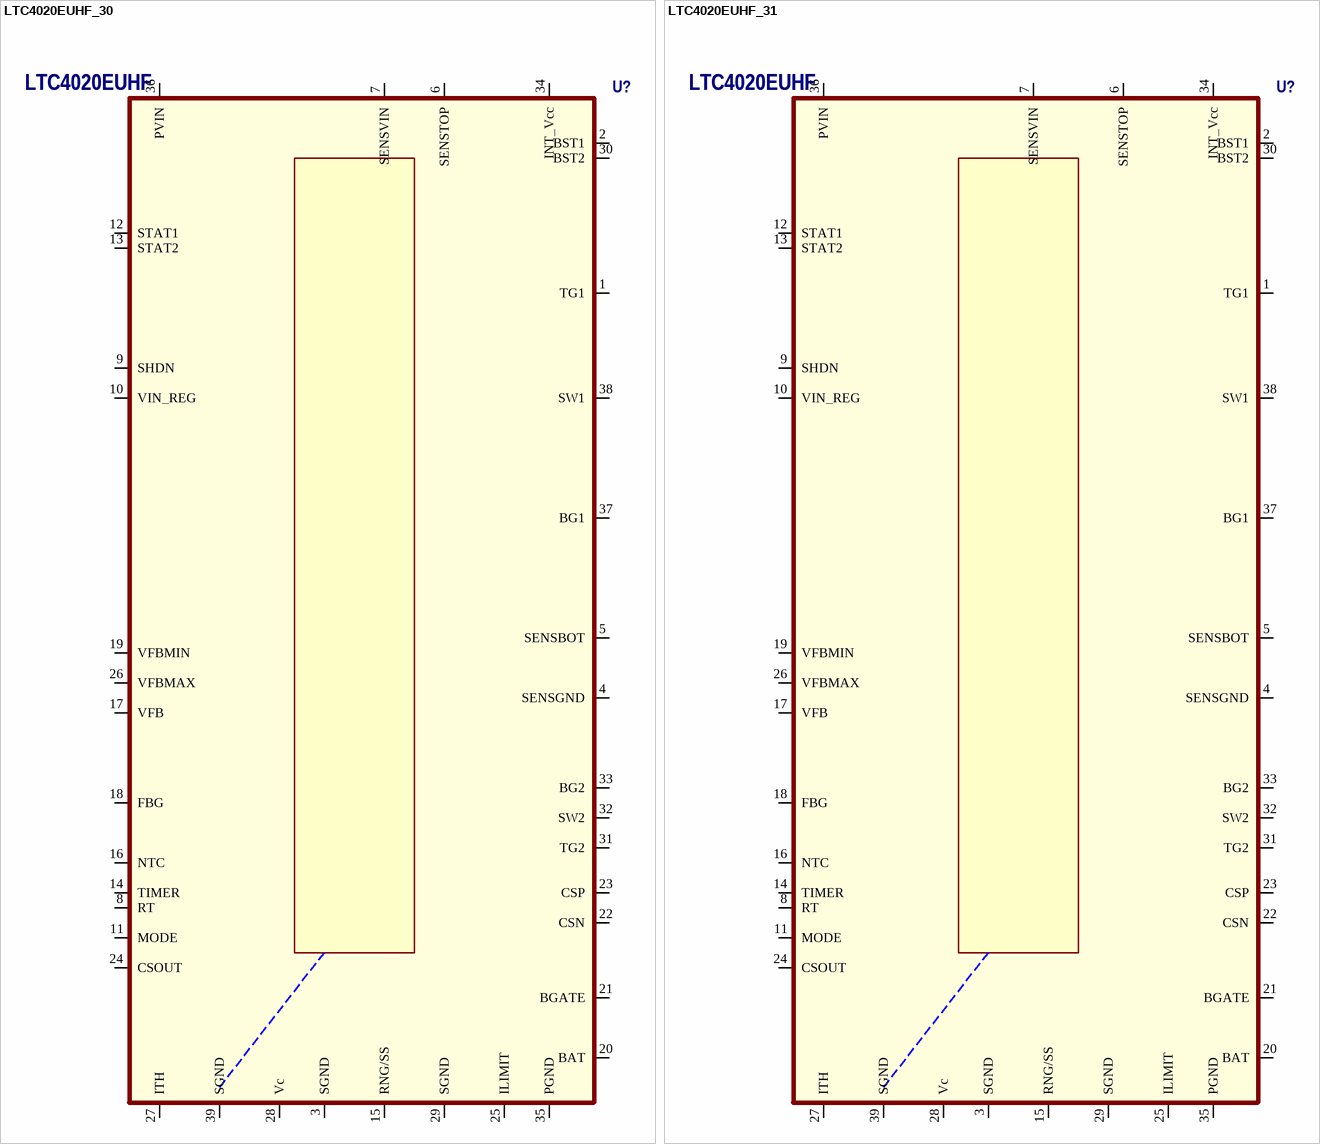
[diagram p16: symbols LTC4020EUHF_30 to LTC4020EUHF_31]

## LTC4020EUHF_30
designator U?, comment LTC4020EUHF
EDMVersionID: 371176505; Value: LTC4020EUHF
footprint LTC-QFN-38-1701
pins: 1 TG1, 2 BST1, 3 SGND, 4 SENSGND, 5 SENSBOT, 6 SENSTOP, 7 SENSVIN, 8 RT, 9 SHDN, 10 VIN_REG, 11 MODE, 12 STAT1, 13 STAT2, 14 TIMER, 15 RNG/SS, 16 NTC, 17 VFB, 18 FBG, 19 VFBMIN, 20 BAT, 21 BGATE, 22 CSN, 23 CSP, 24 CSOUT, 25 ILIMIT, 26 VFBMAX, 27 ITH, 28 Vc, 29 SGND, 30 BST2, 31 TG2, 32 SW2, 33 BG2, 34 INT_Vcc, 35 PGND, 36 PVIN, 37 BG1, 38 SW1, 39 SGND

## LTC4020EUHF_31
designator U?, comment LTC4020EUHF
EDMVersionID: 371176505; Value: LTC4020EUHF
footprint LTC-QFN-38-1701
pins: 1 TG1, 2 BST1, 3 SGND, 4 SENSGND, 5 SENSBOT, 6 SENSTOP, 7 SENSVIN, 8 RT, 9 SHDN, 10 VIN_REG, 11 MODE, 12 STAT1, 13 STAT2, 14 TIMER, 15 RNG/SS, 16 NTC, 17 VFB, 18 FBG, 19 VFBMIN, 20 BAT, 21 BGATE, 22 CSN, 23 CSP, 24 CSOUT, 25 ILIMIT, 26 VFBMAX, 27 ITH, 28 Vc, 29 SGND, 30 BST2, 31 TG2, 32 SW2, 33 BG2, 34 INT_Vcc, 35 PGND, 36 PVIN, 37 BG1, 38 SW1, 39 SGND

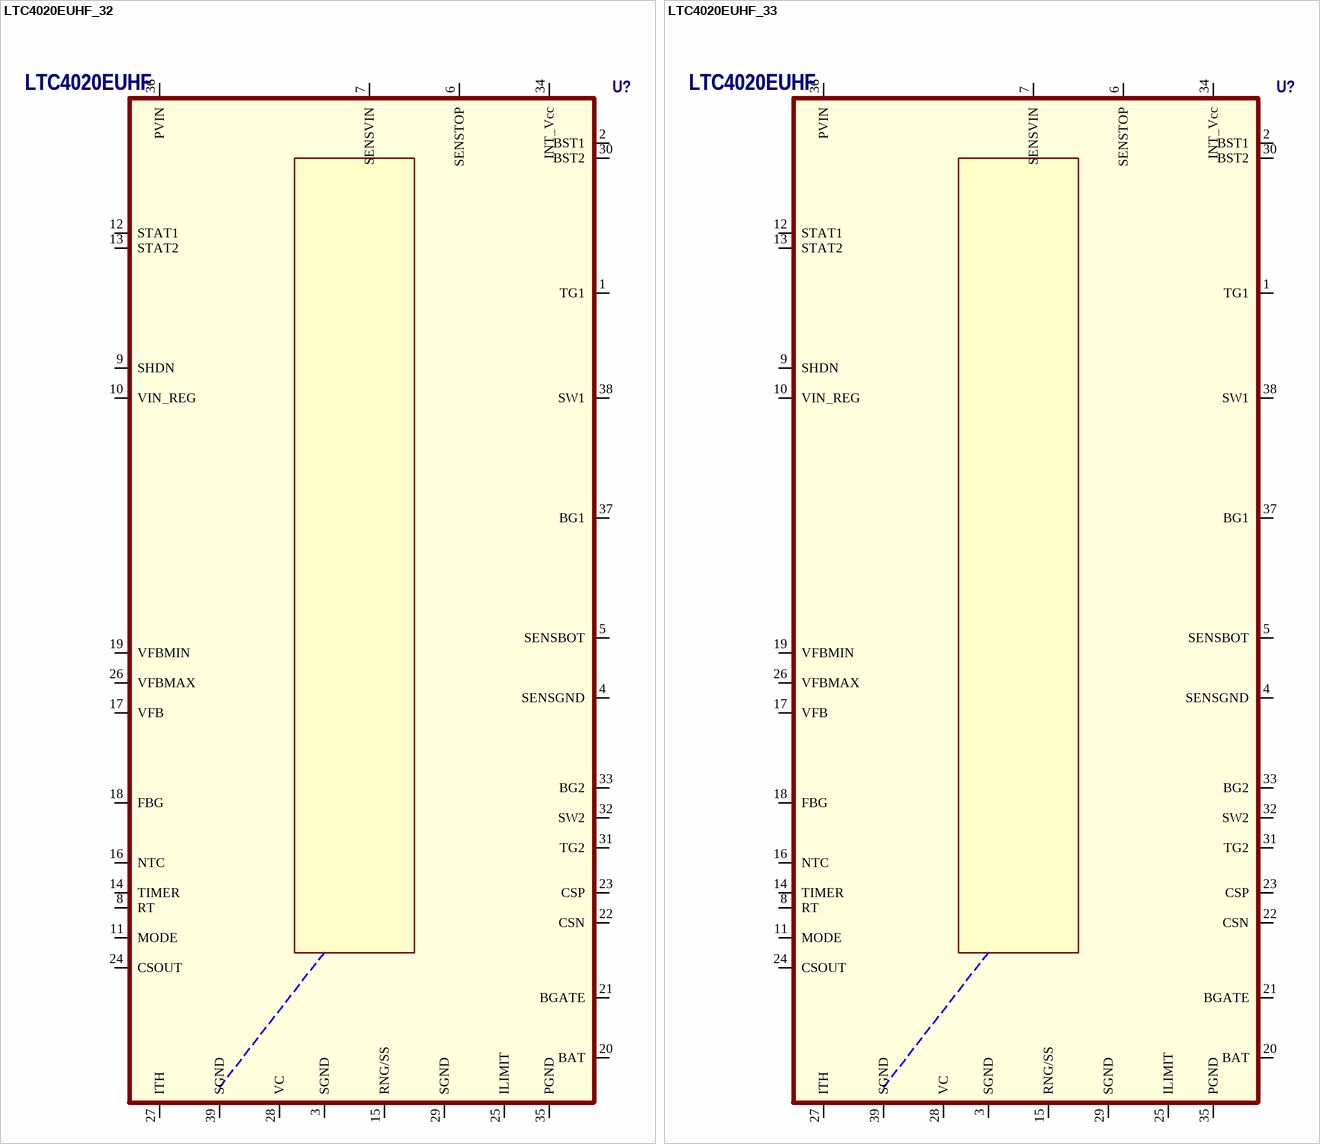
[diagram p17: symbols LTC4020EUHF_32 to LTC4020EUHF_33]

## LTC4020EUHF_32
designator U?, comment LTC4020EUHF
EDMVersionID: 371176505; Value: LTC4020EUHF
footprint LTC-QFN-38-1701
pins: 1 TG1, 2 BST1, 3 SGND, 4 SENSGND, 5 SENSBOT, 6 SENSTOP, 7 SENSVIN, 8 RT, 9 SHDN, 10 VIN_REG, 11 MODE, 12 STAT1, 13 STAT2, 14 TIMER, 15 RNG/SS, 16 NTC, 17 VFB, 18 FBG, 19 VFBMIN, 20 BAT, 21 BGATE, 22 CSN, 23 CSP, 24 CSOUT, 25 ILIMIT, 26 VFBMAX, 27 ITH, 28 VC, 29 SGND, 30 BST2, 31 TG2, 32 SW2, 33 BG2, 34 INT_Vcc, 35 PGND, 36 PVIN, 37 BG1, 38 SW1, 39 SGND

## LTC4020EUHF_33
designator U?, comment LTC4020EUHF
EDMVersionID: 371176505; Value: LTC4020EUHF
footprint LTC-QFN-38-1701
pins: 1 TG1, 2 BST1, 3 SGND, 4 SENSGND, 5 SENSBOT, 6 SENSTOP, 7 SENSVIN, 8 RT, 9 SHDN, 10 VIN_REG, 11 MODE, 12 STAT1, 13 STAT2, 14 TIMER, 15 RNG/SS, 16 NTC, 17 VFB, 18 FBG, 19 VFBMIN, 20 BAT, 21 BGATE, 22 CSN, 23 CSP, 24 CSOUT, 25 ILIMIT, 26 VFBMAX, 27 ITH, 28 VC, 29 SGND, 30 BST2, 31 TG2, 32 SW2, 33 BG2, 34 INT_Vcc, 35 PGND, 36 PVIN, 37 BG1, 38 SW1, 39 SGND

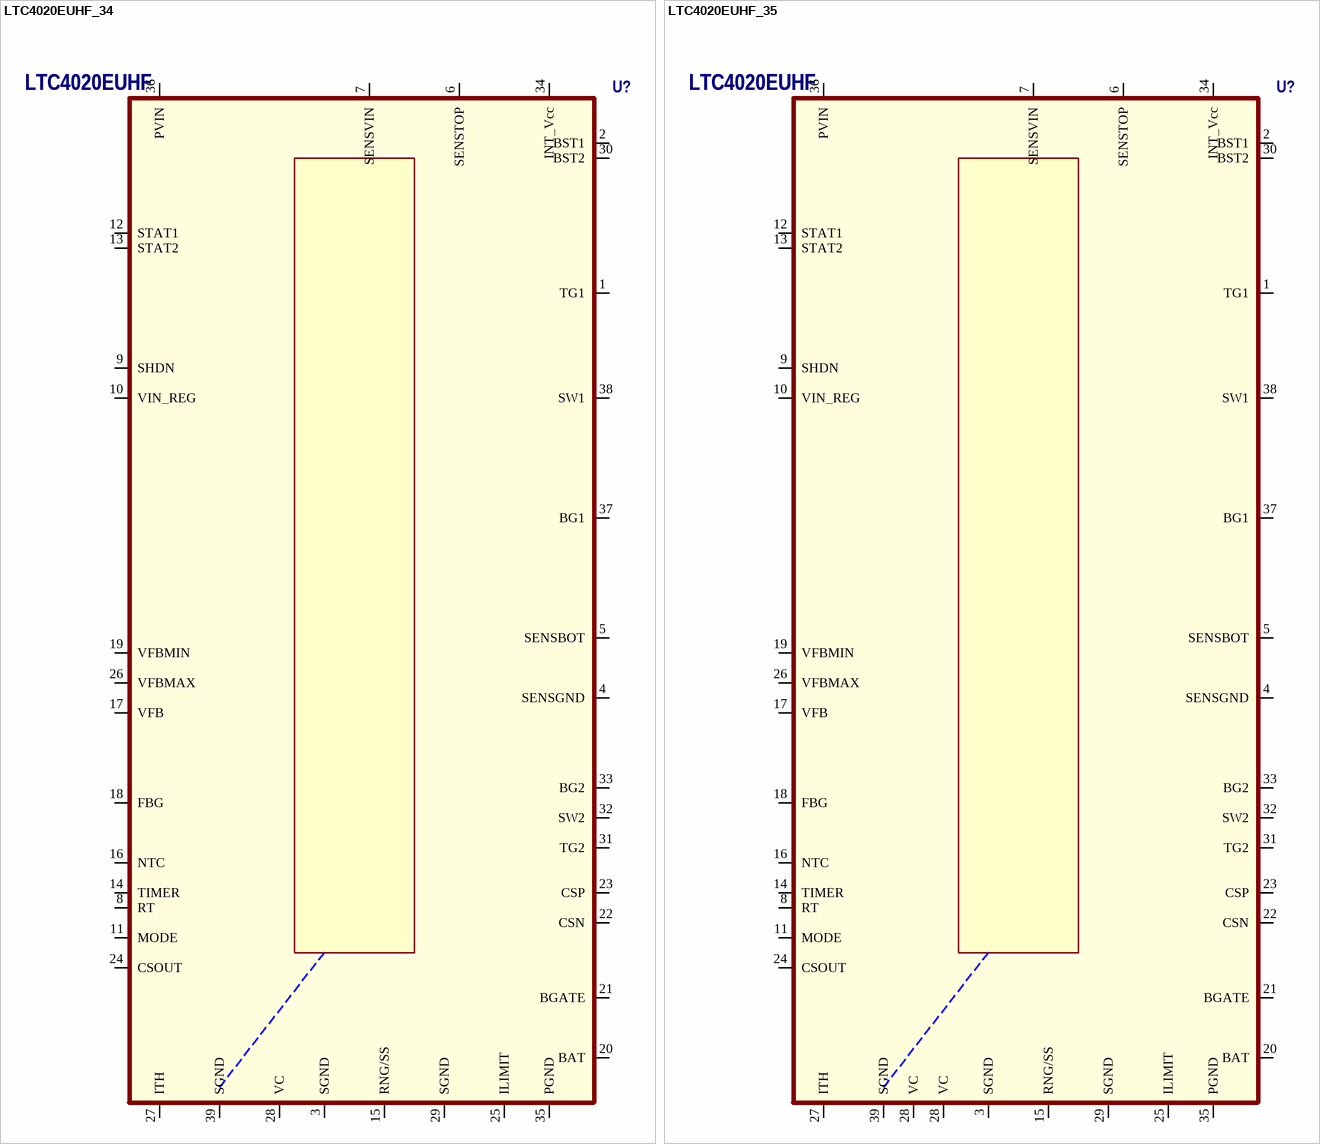
[diagram p18: symbols LTC4020EUHF_34 to LTC4020EUHF_35]

## LTC4020EUHF_34
designator U?, comment LTC4020EUHF
EDMVersionID: 371176505; Value: LTC4020EUHF
footprint LTC-QFN-38-1701
pins: 1 TG1, 2 BST1, 3 SGND, 4 SENSGND, 5 SENSBOT, 6 SENSTOP, 7 SENSVIN, 8 RT, 9 SHDN, 10 VIN_REG, 11 MODE, 12 STAT1, 13 STAT2, 14 TIMER, 15 RNG/SS, 16 NTC, 17 VFB, 18 FBG, 19 VFBMIN, 20 BAT, 21 BGATE, 22 CSN, 23 CSP, 24 CSOUT, 25 ILIMIT, 26 VFBMAX, 27 ITH, 28 VC, 29 SGND, 30 BST2, 31 TG2, 32 SW2, 33 BG2, 34 INT_Vcc, 35 PGND, 36 PVIN, 37 BG1, 38 SW1, 39 SGND

## LTC4020EUHF_35
designator U?, comment LTC4020EUHF
EDMVersionID: 371176505; Value: LTC4020EUHF
footprint LTC-QFN-38-1701
pins: 1 TG1, 2 BST1, 3 SGND, 4 SENSGND, 5 SENSBOT, 6 SENSTOP, 7 SENSVIN, 8 RT, 9 SHDN, 10 VIN_REG, 11 MODE, 12 STAT1, 13 STAT2, 14 TIMER, 15 RNG/SS, 16 NTC, 17 VFB, 18 FBG, 19 VFBMIN, 20 BAT, 21 BGATE, 22 CSN, 23 CSP, 24 CSOUT, 25 ILIMIT, 26 VFBMAX, 27 ITH, 28 VC, 28 VC, 29 SGND, 30 BST2, 31 TG2, 32 SW2, 33 BG2, 34 INT_Vcc, 35 PGND, 36 PVIN, 37 BG1, 38 SW1, 39 SGND

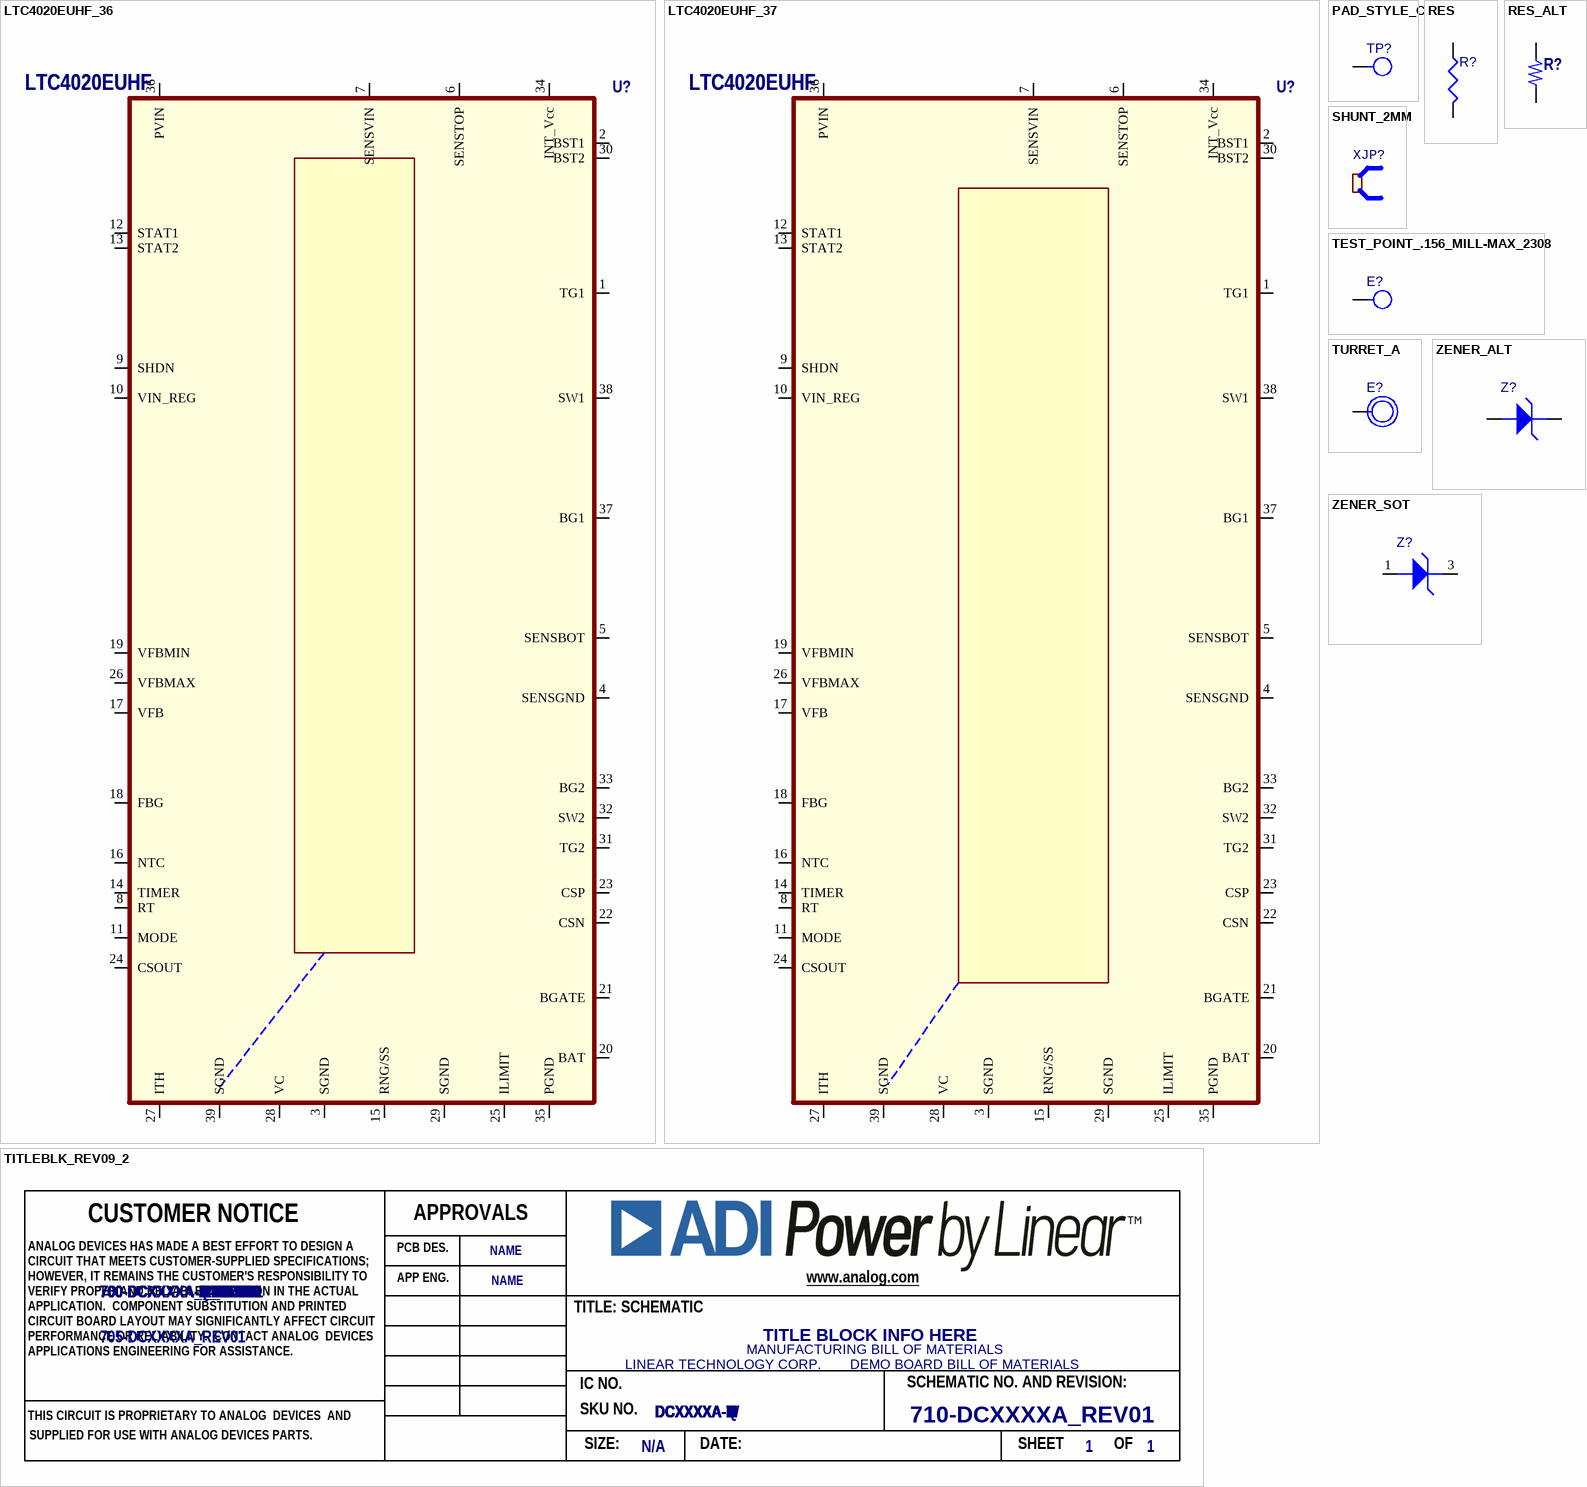
[diagram p19: symbols LTC4020EUHF_36 to ZENER_SOT]

## LTC4020EUHF_36
designator U?, comment LTC4020EUHF
EDMVersionID: 371176505; Value: LTC4020EUHF
footprint LTC-QFN-38-1701
pins: 1 TG1, 2 BST1, 3 SGND, 4 SENSGND, 5 SENSBOT, 6 SENSTOP, 7 SENSVIN, 8 RT, 9 SHDN, 10 VIN_REG, 11 MODE, 12 STAT1, 13 STAT2, 14 TIMER, 15 RNG/SS, 16 NTC, 17 VFB, 18 FBG, 19 VFBMIN, 20 BAT, 21 BGATE, 22 CSN, 23 CSP, 24 CSOUT, 25 ILIMIT, 26 VFBMAX, 27 ITH, 28 VC, 29 SGND, 30 BST2, 31 TG2, 32 SW2, 33 BG2, 34 INT_Vcc, 35 PGND, 36 PVIN, 37 BG1, 38 SW1, 39 SGND

## LTC4020EUHF_37
designator U?, comment LTC4020EUHF
EDMVersionID: 371176505; Value: LTC4020EUHF
footprint LTC-QFN-38-1701
pins: 1 TG1, 2 BST1, 3 SGND, 4 SENSGND, 5 SENSBOT, 6 SENSTOP, 7 SENSVIN, 8 RT, 9 SHDN, 10 VIN_REG, 11 MODE, 12 STAT1, 13 STAT2, 14 TIMER, 15 RNG/SS, 16 NTC, 17 VFB, 18 FBG, 19 VFBMIN, 20 BAT, 21 BGATE, 22 CSN, 23 CSP, 24 CSOUT, 25 ILIMIT, 26 VFBMAX, 27 ITH, 28 VC, 29 SGND, 30 BST2, 31 TG2, 32 SW2, 33 BG2, 34 INT_Vcc, 35 PGND, 36 PVIN, 37 BG1, 38 SW1, 39 SGND

## PAD_STYLE_C
designator TP?
pins: 1

## RES
designator R?
pins: 1, 2

## RES_ALT
designator R?
EDMVersionID: 1192147344
pins: 1, 2

## SHUNT_2MM
designator XJP?  (value not drawn)

## TEST_POINT_.156_MILL-MAX_2308
designator E?
footprint MILLMAX2308
pins: 1 A

## TITLEBLK_REV09_2
designator *  SKU#(-Z): DCXXXXA-Z  SKU#(-Y): DCXXXXA-Y  SKU#(-X): DCXXXXA-X  SKU#(-W): DCXXXXA-W  SKU#(-V): DCXXXXA-V  SKU#(-U): DCXXXXA-U  SKU#(-T): DCXXXXA-T  SKU#(-S): DCXXXXA-S  SKU#(-R): DCXXXXA-R  SKU#(-Q): DCXXXXA-Q  SKU#(-P): DCXXXXA-P  SKU#(-O): DCXXXXA-O  SKU#(-N): DCXXXXA-N  SKU#(-M): DCXXXXA-M  SKU#(-L): DCXXXXA-L  SKU#(-K): DCXXXXA-K  SKU#(-J): DCXXXXA-J  SKU#(-I): DCXXXXA-I  SKU#(-H): DCXXXXA-H  SKU#(-G): DCXXXXA-G  SKU#(-F): DCXXXXA-F  SKU#(-E): DCXXXXA-E  SKU#(-D): DCXXXXA-D  SKU#(-C): DCXXXXA-C  SKU#(-B): DCXXXXA-B  SKU#(-A): DCXXXXA-A  SKU#: DCXXXXA  Page Number: 1  PCB DESIGNER: NAME  PCA SCHEMATIC: 710-DCXXXXA_REV01  PCA BOM(-Z): 700-DCXXXXA-Z_REV01  PCA BOM(-Y): 700-DCXXXXA-Y_REV01  PCA BOM(-X): 700-DCXXXXA-X_REV01  PCA BOM(-W): 700-DCXXXXA-W_REV01  PCA BOM(-V): 700-DCXXXXA-V_REV01  PCA BOM(-U): 700-DCXXXXA-U_REV01  PCA BOM(-T): 700-DCXXXXA-L_REV01  PCA BOM(-S): 700-DCXXXXA-S_REV01  PCA BOM(-R): 700-DCXXXXA-R_REV01  PCA BOM(-Q): 700-DCXXXXA-Q_REV01  PCA BOM(-P): 700-DCXXXXA-P_REV01  PCA BOM(-O): 700-DCXXXXA-O_REV01  PCA BOM(-N): 700-DCXXXXA-N_REV01  PCA BOM(-M): 700-DCXXXXA-M_REV01  PCA BOM(-K): 700-DCXXXXA-K_REV01  PCA BOM(-J): 700-DCXXXXA-J_REV01  PCA BOM(-I): 700-DCXXXXA-I_REV01  PCA BOM(-H): 700-DCXXXXA-H_REV01  PCA BOM(-G): 700-DCXXXXA-G_REV01  PCA BOM(-F): 700-DCXXXXA-F_REV01  PCA BOM(-E): 700-DCXXXXA-E_REV01  PCA BOM(-D): 700-DCXXXXA-D_REV01  PCA BOM(-C): 700-DCXXXXA-C_REV01  PCA BOM(-B): 700-DCXXXXA-B_REV01  PCA BOM(-A): 700-DCXXXXA-A_REV01  PCA BOM: 700-DCXXXXA_REV01  PCA ASS'Y DWG: 705-DCXXXXA_REV01  OrgName: LINEAR TECHNOLOGY CORP.  OrgAddr3: MANUFACTURING BILL OF MATERIALS  OrgAddr2: TITLE BLOCK INFO HERE  OrgAddr1: DEMO BOARD BILL OF MATERIALS  (hidden comment: *)  (graphical)
SIZE: N/A; Page Count: 1; PCA BOM(-L): 700-DCXXXXA-L_REV01; DATE: <DATE>; APP. ENG.: NAME
text: CUSTOMER NOTICE; APPROVALS; ANALOG DEVICES HAS MADE A BEST EFFORT TO DESIGN A / CIRCUIT THAT MEETS CUSTOMER-SUPPLIED SPECIFICATIONS; / HOWEVER, IT REMAINS THE CUSTOMER'S RESPONSIBILITY TO / VERIFY PROPER AND RELIABLE OPERATION IN THE ACTUAL / APPLICATION.  COMPONENT SUBSTITUTION AND PRINTED / CIRCUIT BOARD LAYOUT MAY SIGNIFICANTLY AFFECT CIRCUIT / PERFORMANCE OR RELIABILITY.  CONTACT ANALOG  DEVICES / APPLICATIONS ENGINEERING FOR ASSISTANCE.; PCB DES.; APP ENG.; www.analog.com; TITLE: SCHEMATIC; IC NO.; SCHEMATIC NO. AND REVISION:; THIS CIRCUIT IS PROPRIETARY TO ANALOG  DEVICES  AND; SKU NO.; SUPPLIED FOR USE WITH ANALOG DEVICES PARTS.; SIZE:; DATE:; SHEET; OF

## TURRET_A
designator E?
pins: 1

## ZENER_ALT
designator Z?
pins: 1 C, 2 A

## ZENER_SOT
designator Z?
pins: 1 A, 3 C